# Altium integrated library Processor.IntLib: 58 symbols (part 3 of 4)
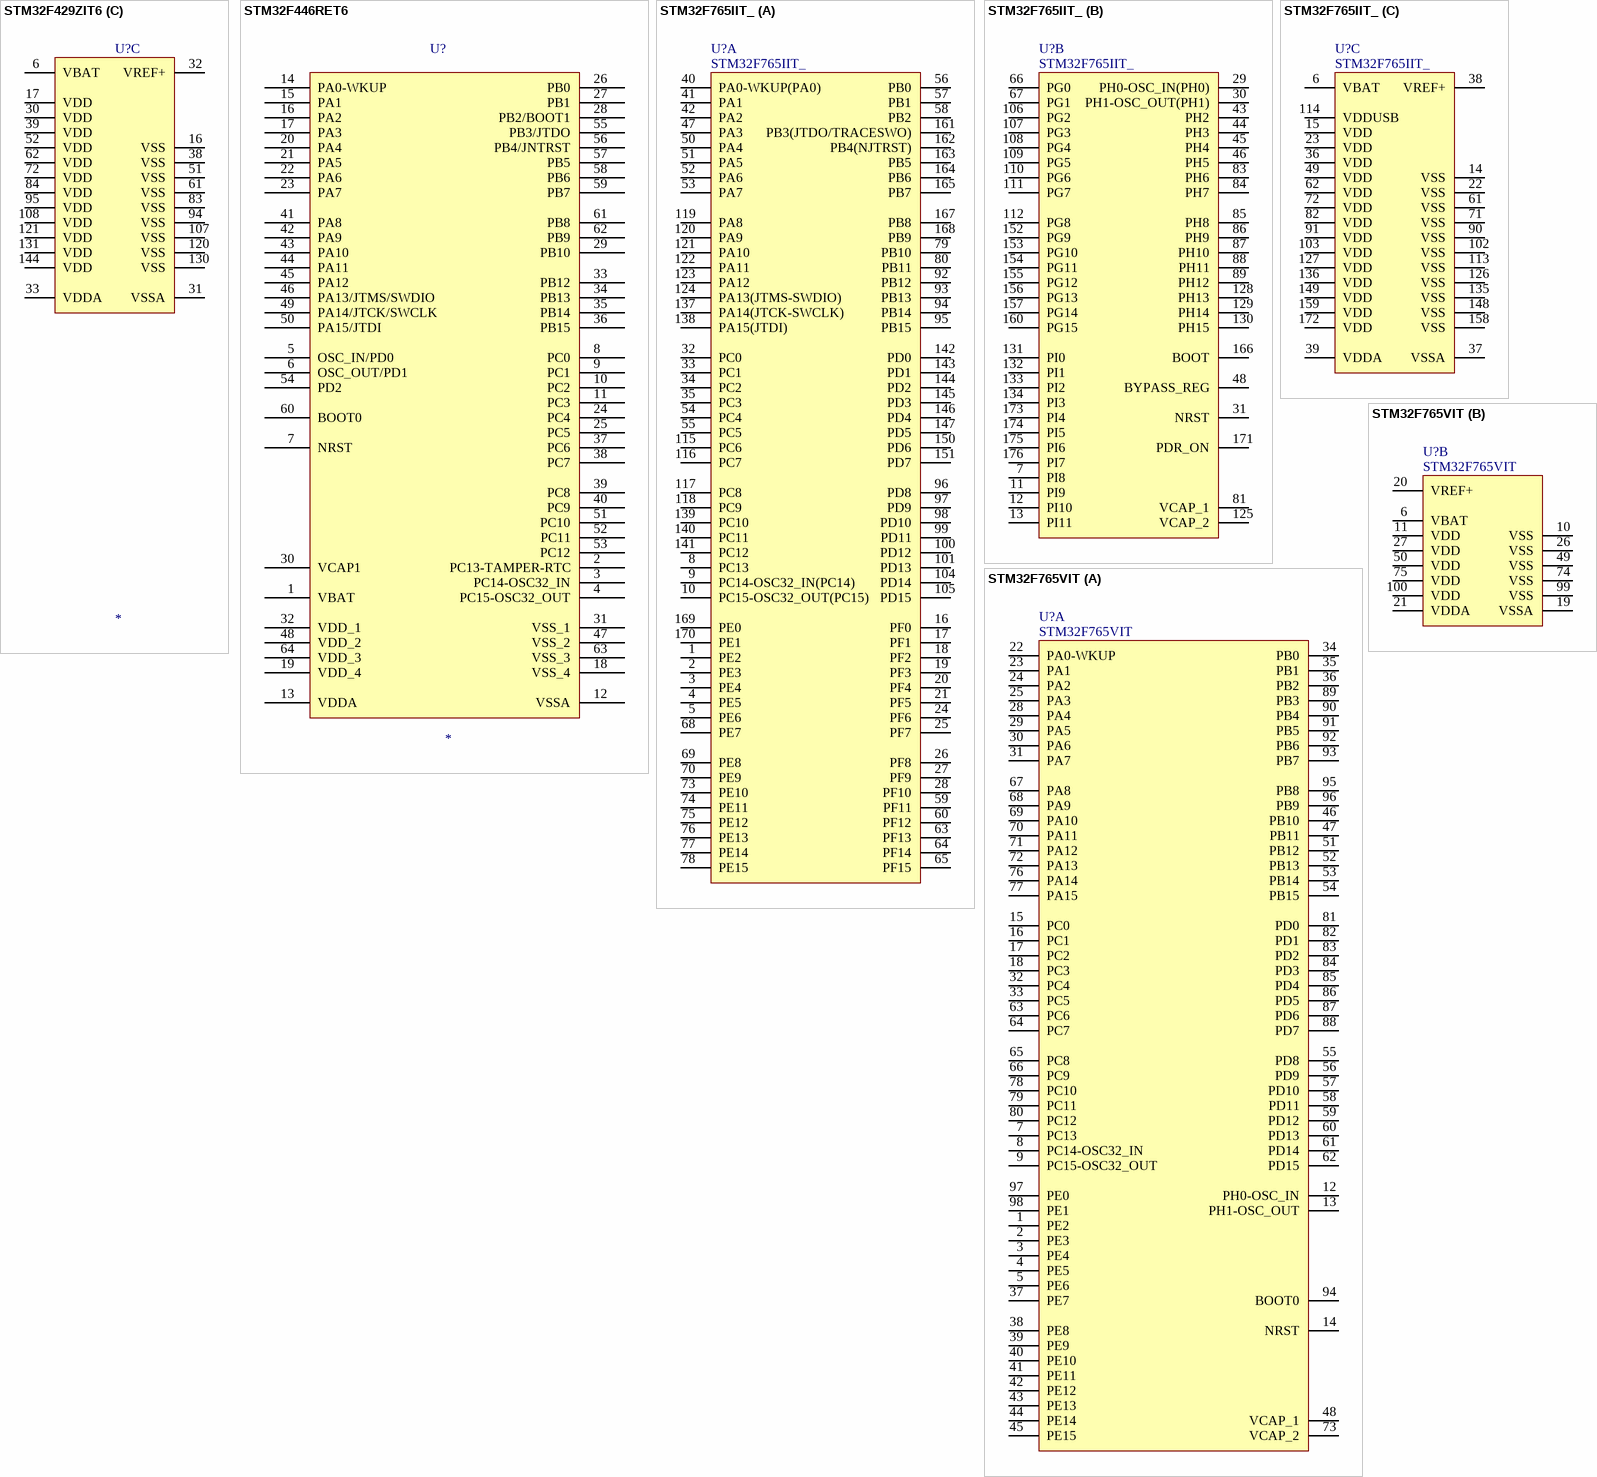
[diagram p27: symbols STM32F429ZIT6 to STM32F765VIT]

## STM32F765VIT
designator U?
Arm Cortex-M7 32b MCU+FPU; Value: STM32F765VIT
footprint LQFP100 P0.5 C14.0X14.0 H1.6 (Thin QFP, 100-Leads, Body 14x14mm, Pitch 0.5mm, IPC Medium Density)
part A pins: 1 PE2 "PE2/TRACECLK,SPI4_SCK,SAI1_MCLK_A,QUADSPI_BK1_IO2,ETH_MII_TXD3,FMC_A23,EVENTOUT", 2 PE3 "PE3/TRACED0,SAI1_SD_B,FMC_A19,EVENTOUT", 3 PE4 "PE4/TRACED1,SPI4_NSS,SAI1_FS_A,FMC_A20,DCMI_D4,LCD_B0,EVENTOUT", 4 PE5 "PE5/TRACED2,TIM9_CH1,SPI4_MISO,SAI1_SCK_A,FMC_A21,DCMI_D6,LCD_G0,EVENTOUT", 5 PE6 "PE6/TRACED3,TIM1_BKIN2,TIM9_CH2,SPI4_MOSI,SAI1_SD_A,SAI2_MCK_B,FMC_A22,DCMI_D7,LCD_G1,EVENTOUT", 7 PC13 "PC13/EVENTOUT/RTC_TAMP1/RTC_TS/RTC_OUT,WKUP4", 8 PC14-OSC32_IN "PC14-OSC32_IN(PC14)/EVENTOUT/OSC32_IN", 9 PC15-OSC32_OUT "PC15-OSC32_OUT(PC15)/EVENTOUT/OSC32_OUT", 12 PH0-OSC_IN "PH0-OSC_IN(PH0)/EVENTOUT/OSC_IN", 13 PH1-OSC_OUT "PH1-OSC_OUT(PH1)/EVENTOUT/OSC_OUT", 14 NRST, 15 PC0 "PC0/SAI2_FS_B,OTG_HS_ULPI_STP,FMC_SDNWE,LCD_R5,EVENTOUT/ADC123_IN10", 16 PC1 "PC1/TRACED0,SPI2_MOSI/I2S2_SD,SAI1_SD_A,ETH_MDC,EVENTOUT/ADC123_IN11,RTC_TAMP3,WKUP3", 17 PC2 "PC2/SPI2_MISO,OTG_HS_ULPI_DIR,ETH_MII_TXD2,FMC_SDNE0,EVENTOUT/ADC123_IN12", 18 PC3 "PC3/SPI2_MOSI/I2S2_SD,OTG_HS_ULPI_NXT,ETH_MII_TX_CLK,FMC_SDCKE0,EVENTOUT/ADC123_IN13", 22 PA0-WKUP "PA0-WKUP(PA0)/TIM2_CH1/TIM2_ETR,TIM5_CH1,TIM8_ETR,USART2_CTS,UART4_TX,SAI2_SD_B,ETH_MII_CRS,EVENTOUT/ADC123_IN0,WKUP1", 23 PA1 "PA1/TIM2_CH2,TIM5_CH2,USART2_RTS,UART4_RX,QUADSPI_BK1_IO3,SAI2_MCK_B,ETH_MII_RX_CLK/ETH_RMII_REF_CLK,LCD_R2,EVENTOUT/ADC123_IN1", 24 PA2 "PA2/TIM2_CH3,TIM5_CH3,TIM9_CH1,USART2_TX,SAI2_SCK_B,ETH_MDIO,LCD_R1,EVENTOUT/ADC123_IN2,WKUP2", 25 PA3 "PA3/TIM2_CH4,TIM5_CH4,TIM9_CH2,USART2_RX,OTG_HS_ULPI_D0,ETH_MII_COL,LCD_B5,EVENTOUT/ADC123_IN3", 28 PA4 "PA4/SPI1_NSS/I2S1_WS,SPI3_NSS/I2S3_WS,USART2_CK,OTG_HS_SOF,DCMI_HSYNC,LCD_VSYNC,EVENTOUT/ADC12_IN4,DAC_OUT1", 29 PA5 "PA5/TIM2_CH1/TIM2_ETR,TIM8_CH1N,SPI1_SCK/I2S1_CK,OTG_HS_ULPI_CK,LCD_R4,EVENTOUT/ADC12_IN5,DAC_OUT2", 30 PA6 "PA6/TIM1_BKIN,TIM3_CH1,TIM8_BKIN,SPI1_MISO,TIM13_CH1,DCMI_PIXCLK,LCD_G2,EVENTOUT/ADC12_IN6", 31 PA7 "PA7/TIM1_CH1N,TIM3_CH2,TIM8_CH1N,SPI1_MOSI/I2S1_SD,TIM14_CH1,ETH_MII_RX_DV/ETH_RMII_CRS_DV,FMC_SDNWE,EVENTOUT/ADC12_IN7", 32 PC4 "PC4/I2S1_MCK,SPDIFRX_IN2,ETH_MII_RXD0/ETH_RMII_RXD0,FMC_SDNE0,EVENTOUT/ADC12_IN14", 33 PC5 "PC5/SPDIFRX_IN3,ETH_MII_RXD1/ETH_RMII_RXD1,FMC_SDCKE0,EVENTOUT/ADC12_IN15", 34 PB0 "PB0/TIM1_CH2N,TIM3_CH3,TIM8_CH2N,UART4_CTS,LCD_R3,OTG_HS_ULPI_D1,ETH_MII_RXD2,EVENTOUT/ADC12_IN8", 35 PB1 "PB1/TIM1_CH3N,TIM3_CH4,TIM8_CH3N,LCD_R6,OTG_HS_ULPI_D2,ETH_MII_RXD3,EVENTOUT/ADC12_IN9", 36 PB2 "PB2/SAI1_SD_A,SPI3_MOSI/I2S3_SD,QUADSPI_CLK,EVENTOUT", 37 PE7 "PE7/TIM1_ETR,UART7_RX,QUADSPI_BK2_IO0,FMC_D4,EVENTOUT", 38 PE8 "PE8/TIM1_CH1N,UART7_TX,QUADSPI_BK2_IO1,FMC_D5,EVENTOUT", 39 PE9 "PE9/TIM1_CH1,UART7_RTS,QUADSPI_BK2_IO2,FMC_D6,EVENTOUT", 40 PE10 "PE10/TIM1_CH2N,UART7_CTS,QUADSPI_BK2_IO3,FMC_D7,EVENTOUT", 41 PE11 "PE11/TIM1_CH2,SPI4_NSS,SAI2_SD_B,FMC_D8,LCD_G3,EVENTOUT", 42 PE12 "PE12/TIM1_CH3N,SPI4_SCK,SAI2_SCK_B,FMC_D9,LCD_B4,EVENTOUT", 43 PE13 "PE13/TIM1_CH3,SPI4_MISO,SAI2_FS_B,FMC_D10,LCD_DE,EVENTOUT", 44 PE14 "PE14/TIM1_CH4,SPI4_MOSI,SAI2_MCK_B,FMC_D11,LCD_CLK,EVENTOUT", 45 PE15 "PE15/TIM1_BKIN,FMC_D12,LCD_R7,EVENTOUT", 46 PB10 "PB10/TIM2_CH3,I2C2_SCL,SPI2_SCK/I2S2_CK,USART3_TX,OTG_HS_ULPI_D3,ETH_MII_RX_ER,LCD_G4,EVENTOUT", 47 PB11 "PB11/TIM2_CH4,I2C2_SDA,USART3_RX,OTG_HS_ULPI_D4,ETH_MII_TX_EN/ETH_RMII_TX_EN,LCD_G5,EVENTOUT", 48 VCAP_1, 51 PB12 "PB12/TIM1_BKIN,I2C2_SMBA,SPI2_NSS/I2S2_WS,USART3_CK,CAN2_RX,OTG_HS_ULPI_D5,ETH_MII_TXD0/ETH_RMII_TXD0,OTG_HS_ID,EVENTOUT", 52 PB13 "PB13/TIM1_CH1N,SPI2_SCK/I2S2_CK,USART3_CTS,CAN2_TX,OTG_HS_ULPI_D6,ETH_MII_TXD1/ETH_RMII_TXD1,EVENTOUT/OTG_HS_VBUS", 53 PB14 "PB14/TIM1_CH2N,TIM8_CH2N,SPI2_MISO,USART3_RTS,TIM12_CH1,OTG_HS_DM,EVENTOUT", 54 PB15 "PB15/RTC_REFIN,TIM1_CH3N,TIM8_CH3N,SPI2_MOSI/I2S2_SD,TIM12_CH2,OTG_HS_DP,EVENTOUT", 55 PD8 "PD8/USART3_TX,SPDIFRX_IN11,FMC_D13,EVENTOUT", 56 PD9 "PD9/USART3_RX,FMC_D14,EVENTOUT", 57 PD10 "PD10/USART3_CK,FMC_D15,LCD_B3,EVENTOUT", 58 PD11 "PD11/I2C4_SMBA,USART3_CTS,QUADSPI_BK1_IO0,SAI2_SD_A,FMC_A16/FMC_CLE,EVENTOUT", 59 PD12 "PD12/TIM4_CH1,LPTIM1_IN1,I2C4_SCL,USART3_RTS,QUADSPI_BK1_IO1,SAI2_FS_A,FMC_A17/FMC_ALE,EVENTOUT", 60 PD13 "PD13/TIM4_CH2,LPTIM1_OUT,I2C4_SDA,QUADSPI_BK1_IO3,SAI2_SCK_A,FMC_A18,EVENTOUT", 61 PD14 "PD14/TIM4_CH3,UART8_CTS,FMC_D0,EVENTOUT", 62 PD15 "PD15/TIM4_CH4,UART8_RTS,FMC_D1,EVENTOUT", 63 PC6 "PC6/TIM3_CH1,TIM8_CH1,I2S2_MCK,USART6_TX,SDMMC1_D6,DCMI_D0,LCD_HSYNC,EVENTOUT", 64 PC7 "PC7/TIM3_CH2,TIM8_CH2,I2S3_MCK,USART6_RX,SDMMC1_D7,DCMI_D1,LCD_G6,EVENTOUT", 65 PC8 "PC8/TRACED1,TIM3_CH3,TIM8_CH3,UART5_RTS,USART6_CK,SDMMC1_D0,DCMI_D2,EVENTOUT", 66 PC9 "PC9/MCO2,TIM3_CH4,TIM8_CH4,I2C3_SDA,I2S_CKIN,UART5_CTS,QUADSPI_BK1_IO0,SDMMC1_D1,DCMI_D3,EVENTOUT", 67 PA8 "PA8/MCO1,TIM1_CH1,TIM8_BKIN2,I2C3_SCL,USART1_CK,OTG_FS_SOF,LCD_R6,EVENTOUT", 68 PA9 "PA9/TIM1_CH2,I2C3_SMBA,SPI2_SCK/I2S2_CK,USART1_TX,DCMI_D0,EVENTOUT/OTG_FS_VBUS", 69 PA10 "PA10/TIM1_CH3,USART1_RX,OTG_FS_ID,DCMI_D1,EVENTOUT", 70 PA11 "PA11/TIM1_CH4,USART1_CTS,CAN1_RX,OTG_FS_DM,LCD_R4,EVENTOUT", 71 PA12 "PA12/TIM1_ETR,USART1_RTS,SAI2_FS_B,CAN1_TX,OTG_FS_DP,LCD_R5,EVENTOUT", 72 PA13 "PA13(JTMS-SWDIO)/JTMS-SWDIO,EVENTOUT", 73 VCAP_2, 76 PA14 "PA14(JTCK-SWCLK)/JTCK-SWCLK,EVENTOUT", 77 PA15 "PA15(JTDI)/JTDI/TIM2_CH1/TIM2_ETR,HDMI-CEC,SPI1_NSS/I2S1_WS,SPI3_NSS/I2S3_WS,UART4_RTS,EVENTOUT", 78 PC10 "PC10/SPI3_SCK/I2S3_CK,USART3_TX,UART4_TX,QUADSPI_BK1_IO1,SDMMC1_D2,DCMI_D8,LCD_R2,EVENTOUT", 79 PC11 "PC11/SPI3_MISO,USART3_RX,UART4_RX,QUADSPI_BK2_NCS,SDMMC1_D3,DCMI_D4,EVENTOUT", 80 PC12 "PC12/TRACED3,SPI3_MOSI/I2S3_SD,USART3_CK,UART5_TX,SDMMC1_CK,DCMI_D9,EVENTOUT", 81 PD0 "PD0/CAN1_RX,FMC_D2,EVENTOUT", 82 PD1 "PD1/CAN1_TX,FMC_D3,EVENTOUT", 83 PD2 "PD2/TRACED2,TIM3_ETR,UART5_RX,SDMMC1_CMD,DCMI_D11,EVENTOUT", 84 PD3 "PD3/SPI2_SCK/I2S2_CK,USART2_CTS,FMC_CLK,DCMI_D5,LCD_G7,EVENTOUT", 85 PD4 "PD4/USART2_RTS,FMC_NOE,EVENTOUT", 86 PD5 "PD5/USART2_TX,FMC_NWE,EVENTOUT", 87 PD6 "PD6/SPI3_MOSI/I2S3_SD,SAI1_SD_A,USART2_RX,FMC_NWAIT,DCMI_D10,LCD_B2,EVENTOUT", 88 PD7 "PD7/USART2_CK,SPDIFRX_IN0,FMC_NE1,EVENTOUT", 89 PB3 "PB3(JTDO/TRACESWO)/JTDO/TRACESWO,TIM2_CH2,SPI1_SCK/I2S1_CK,SPI3_SCK/I2S3_CK,EVENTOUT", 90 PB4 "PB4(NJTRST)/NJTRST,TIM3_CH1,SPI1_MISO,SPI3_MISO,SPI2_NSS/I2S2_WS,EVENTOUT", 91 PB5 "PB5/TIM3_CH2,I2C1_SMBA,SPI1_MOSI/I2S1_SD,SPI3_MOSI/I2S3_SD,CAN2_RX,OTG_HS_ULPI_D7,ETH_PPS_OUT,FMC_SDCKE1,DCMI_D10,EVENTOUT", 92 PB6 "PB6/TIM4_CH1,HDMI-CEC,I2C1_SCL,USART1_TX,CAN2_TX,QUADSPI_BK1_NCS,FMC_SDNE1,DCMI_D5,EVENTOUT", 93 PB7 "PB7/TIM4_CH2,I2C1_SDA,USART1_RX,FMC_NL,DCMI_VSYNC,EVENTOUT", 94 BOOT0 "BOOT/VPP", 95 PB8 "PB8/TIM4_CH3,TIM10_CH1,I2C1_SCL,CAN1_RX,ETH_MII_TXD3,SDMMC1_D4,DCMI_D6,LCD_B6,EVENTOUT", 96 PB9 "PB9/TIM4_CH4,TIM11_CH1,I2C1_SDA,SPI2_NSS/I2S2_WS,CAN1_TX,SDMMC1_D5,DCMI_D7,LCD_B7,EVENTOUT", 97 PE0 "PE0/TIM4_ETR,LPTIM1_ETR,UART8_RX,SAI2_MCK_A,FMC_NBL0,DCMI_D2,EVENTOUT", 98 PE1 "PE1/LPTIM1_IN2,UART8_TX,FMC_NBL1,DCMI_D3,EVENTOUT"
part B pins: 6 VBAT, 10 VSS, 11 VDD, 19 VSSA, 20 VREF+, 21 VDDA, 26 VSS, 27 VDD, 49 VSS, 50 VDD, 74 VSS, 75 VDD, 99 VSS, 100 VDD

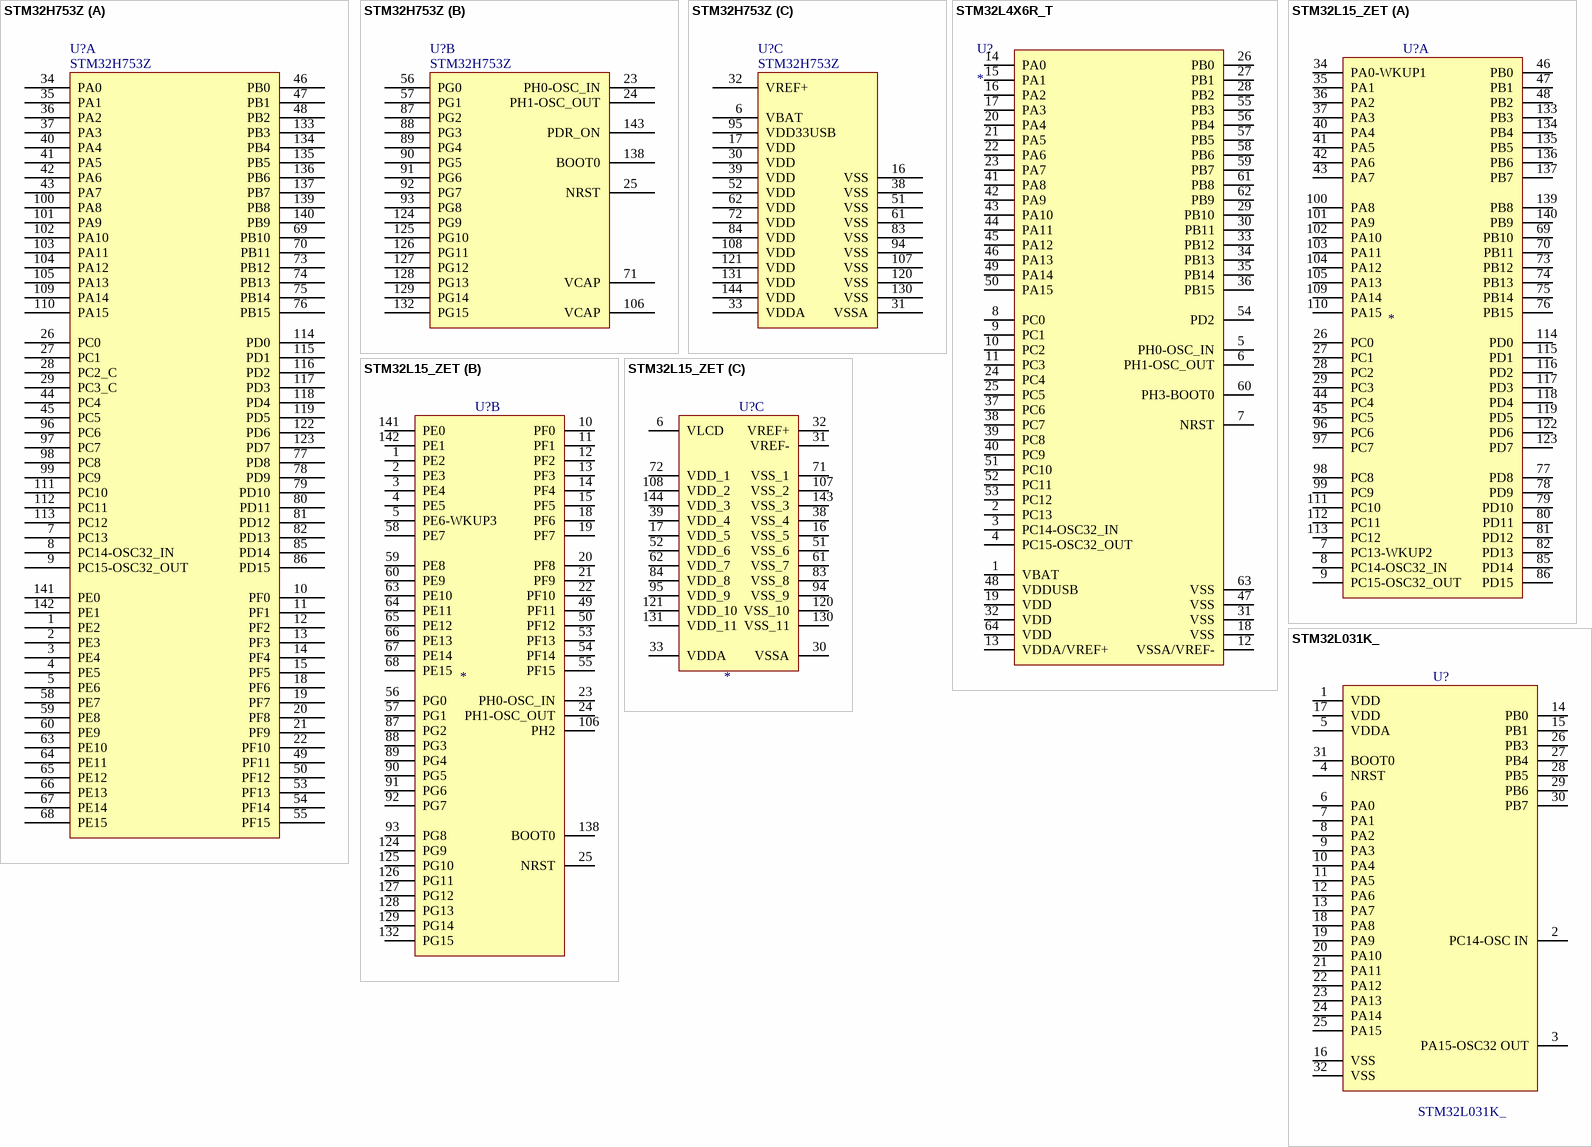
[diagram p16: symbols STM32H753Z to STM32L031K_]

## STM32H753Z
designator U?
32-bit Arm® Cortex®-M7 480MHz MCUs; Value: STM32H753Z
footprint LQFP144 P0.5 C20.0x20.0 H1.6 (Thin QFP, 144-Leads, Body 20x20mm, Pitch 0.5mm, IPC Medium Density)
part A pins: 1 PE2 "PE2/TRACECLK,SPI4_SCK,SAI1_MCLK_A,QUADSPI_BK1_IO2,ETH_MII_TXD3,FMC_A23,EVENTOUT", 2 PE3 "PE3/TRACED0,SAI1_SD_B,FMC_A19,EVENTOUT", 3 PE4 "PE4/TRACED1,SPI4_NSS,SAI1_FS_A,FMC_A20,DCMI_D4,LCD_B0,EVENTOUT", 4 PE5 "PE5/TRACED2,TIM9_CH1,SPI4_MISO,SAI1_SCK_A,FMC_A21,DCMI_D6,LCD_G0,EVENTOUT", 5 PE6 "PE6/TRACED3,TIM1_BKIN2,TIM9_CH2,SPI4_MOSI,SAI1_SD_A,SAI2_MCK_B,FMC_A22,DCMI_D7,LCD_G1,EVENTOUT", 7 PC13 "PC13/EVENTOUT/RTC_TAMP1/RTC_TS/RTC_OUT,WKUP4", 8 PC14-OSC32_IN "PC14/EVENTOUT/OSC32_IN", 9 PC15-OSC32_OUT "PC15/EVENTOUT/OSC32_OUT", 10 PF0 "PF0/I2C2_SDA,FMC_A0,EVENTOUT", 11 PF1 "PF1/I2C2_SCL,FMC_A1,EVENTOUT", 12 PF2 "PF2/I2C2_SMBA,FMC_A2,EVENTOUT", 13 PF3 "PF3/FMC_A3,EVENTOUT/ADC3_IN9", 14 PF4 "PF4/FMC_A4,EVENTOUT/ADC3_IN14", 15 PF5 "PF5/FMC_A5,EVENTOUT/ADC3_IN15", 18 PF6 "PF6/TIM10_CH1,SPI5_NSS,SAI1_SD_B,UART7_RX,QUADSPI_BK1_IO3,EVENTOUT/ADC3_IN4", 19 PF7 "PF7/TIM11_CH1,SPI5_SCK,SAI1_MCLK_B,UART7_TX,QUADSPI_BK1_IO2,EVENTOUT/ADC3_IN5", 20 PF8 "PF8/SPI5_MISO,SAI1_SCK_B,UART7_RTS,TIM13_CH1,QUADSPI_BK1_IO0,EVENTOUT/ADC3_IN6", 21 PF9 "PF9/SPI5_MOSI,SAI1_FS_B,UART7_CTS,TIM14_CH1,QUADSPI_BK1_IO1,EVENTOUT/ADC3_IN7", 22 PF10 "PF10/DCMI_D11,LCD_DE,EVENTOUT/ADC3_IN8", 26 PC0 "PC0/SAI2_FS_B,OTG_HS_ULPI_STP,FMC_SDNWE,LCD_R5,EVENTOUT/ADC123_IN10", 27 PC1 "PC1/TRACED0,SPI2_MOSI/I2S2_SD,SAI1_SD_A,ETH_MDC,EVENTOUT/ADC123_IN11,RTC_TAMP3,WKUP3", 28 PC2_C "PC2/SPI2_MISO,OTG_HS_ULPI_DIR,ETH_MII_TXD2,FMC_SDNE0,EVENTOUT/ADC123_IN12", 29 PC3_C "PC3/SPI2_MOSI/I2S2_SD,OTG_HS_ULPI_NXT,ETH_MII_TX_CLK,FMC_SDCKE0,EVENTOUT/ADC123_IN13", 34 PA0 "PA0-WKUP(PA0)/TIM2_CH1/TIM2_ETR,TIM5_CH1,TIM8_ETR,USART2_CTS,UART4_TX,SAI2_SD_B,ETH_MII_CRS,EVENTOUT/ADC123_IN0,WKUP1", 35 PA1 "PA1/TIM2_CH2,TIM5_CH2,USART2_RTS,UART4_RX,QUADSPI_BK1_IO3,SAI2_MCK_B,ETH_MII_RX_CLK/ETH_RMII_REF_CLK,LCD_R2,EVENTOUT/ADC123_IN1", 36 PA2 "PA2/TIM2_CH3,TIM5_CH3,TIM9_CH1,USART2_TX,SAI2_SCK_B,ETH_MDIO,LCD_R1,EVENTOUT/ADC123_IN2,WKUP2", 37 PA3 "PA3/TIM2_CH4,TIM5_CH4,TIM9_CH2,USART2_RX,OTG_HS_ULPI_D0,ETH_MII_COL,LCD_B5,EVENTOUT/ADC123_IN3", 40 PA4 "PA4/SPI1_NSS/I2S1_WS,SPI3_NSS/I2S3_WS,USART2_CK,OTG_HS_SOF,DCMI_HSYNC,LCD_VSYNC,EVENTOUT/ADC12_IN4,DAC_OUT1", 41 PA5 "PA5/TIM2_CH1/TIM2_ETR,TIM8_CH1N,SPI1_SCK/I2S1_CK,OTG_HS_ULPI_CK,LCD_R4,EVENTOUT/ADC12_IN5,DAC_OUT2", 42 PA6 "PA6/TIM1_BKIN,TIM3_CH1,TIM8_BKIN,SPI1_MISO,TIM13_CH1,DCMI_PIXCLK,LCD_G2,EVENTOUT/ADC12_IN6", 43 PA7 "PA7/TIM1_CH1N,TIM3_CH2,TIM8_CH1N,SPI1_MOSI/I2S1_SD,TIM14_CH1,ETH_MII_RX_DV/ETH_RMII_CRS_DV,FMC_SDNWE,EVENTOUT/ADC12_IN7", 44 PC4 "PC4/I2S1_MCK,SPDIFRX_IN2,ETH_MII_RXD0/ETH_RMII_RXD0,FMC_SDNE0,EVENTOUT/ADC12_IN14", 45 PC5 "PC5/SPDIFRX_IN3,ETH_MII_RXD1/ETH_RMII_RXD1,FMC_SDCKE0,EVENTOUT/ADC12_IN15", 46 PB0 "PB0/TIM1_CH2N,TIM3_CH3,TIM8_CH2N,UART4_CTS,LCD_R3,OTG_HS_ULPI_D1,ETH_MII_RXD2,EVENTOUT/ADC12_IN8", 47 PB1 "PB1/TIM1_CH3N,TIM3_CH4,TIM8_CH3N,LCD_R6,OTG_HS_ULPI_D2,ETH_MII_RXD3,EVENTOUT/ADC12_IN9", 48 PB2 "PB2/SAI1_SD_A,SPI3_MOSI/I2S3_SD,QUADSPI_CLK,EVENTOUT", 49 PF11 "PF11/SPI5_MOSI,SAI2_SD_B,FMC_SDNRAS,DCMI_D12,EVENTOUT", 50 PF12 "PF12/FMC_A6,EVENTOUT", 53 PF13 "PF13/I2C4_SMBA,FMC_A7,EVENTOUT", 54 PF14 "PF14/I2C4_SCL,FMC_A8,EVENTOUT", 55 PF15 "PF15/I2C4_SDA,FMC_A9,EVENTOUT", 58 PE7 "PE7/TIM1_ETR,UART7_RX,QUADSPI_BK2_IO0,FMC_D4,EVENTOUT", 59 PE8 "PE8/TIM1_CH1N,UART7_TX,QUADSPI_BK2_IO1,FMC_D5,EVENTOUT", 60 PE9 "PE9/TIM1_CH1,UART7_RTS,QUADSPI_BK2_IO2,FMC_D6,EVENTOUT", 63 PE10 "PE10/TIM1_CH2N,UART7_CTS,QUADSPI_BK2_IO3,FMC_D7,EVENTOUT", 64 PE11 "PE11/TIM1_CH2,SPI4_NSS,SAI2_SD_B,FMC_D8,LCD_G3,EVENTOUT", 65 PE12 "PE12/TIM1_CH3N,SPI4_SCK,SAI2_SCK_B,FMC_D9,LCD_B4,EVENTOUT", 66 PE13 "PE13/TIM1_CH3,SPI4_MISO,SAI2_FS_B,FMC_D10,LCD_DE,EVENTOUT", 67 PE14 "PE14/TIM1_CH4,SPI4_MOSI,SAI2_MCK_B,FMC_D11,LCD_CLK,EVENTOUT", 68 PE15 "PE15/TIM1_BKIN,FMC_D12,LCD_R7,EVENTOUT", 69 PB10 "PB10/TIM2_CH3,I2C2_SCL,SPI2_SCK/I2S2_CK,USART3_TX,OTG_HS_ULPI_D3,ETH_MII_RX_ER,LCD_G4,EVENTOUT", 70 PB11 "PB11/TIM2_CH4,I2C2_SDA,USART3_RX,OTG_HS_ULPI_D4,ETH_MII_TX_EN/ETH_RMII_TX_EN,LCD_G5,EVENTOUT", 73 PB12 "PB12/TIM1_BKIN,I2C2_SMBA,SPI2_NSS/I2S2_WS,USART3_CK,CAN2_RX,OTG_HS_ULPI_D5,ETH_MII_TXD0/ETH_RMII_TXD0,OTG_HS_ID,EVENTOUT", 74 PB13 "PB13/TIM1_CH1N,SPI2_SCK/I2S2_CK,USART3_CTS,CAN2_TX,OTG_HS_ULPI_D6,ETH_MII_TXD1/ETH_RMII_TXD1,EVENTOUT/OTG_HS_VBUS", 75 PB14 "PB14/TIM1_CH2N,TIM8_CH2N,SPI2_MISO,USART3_RTS,TIM12_CH1,OTG_HS_DM,EVENTOUT", 76 PB15 "PB15/RTC_REFIN,TIM1_CH3N,TIM8_CH3N,SPI2_MOSI/I2S2_SD,TIM12_CH2,OTG_HS_DP,EVENTOUT", 77 PD8 "PD8/USART3_TX,SPDIFRX_IN11,FMC_D13,EVENTOUT", 78 PD9 "PD9/USART3_RX,FMC_D14,EVENTOUT", 79 PD10 "PD10/USART3_CK,FMC_D15,LCD_B3,EVENTOUT", 80 PD11 "PD11/I2C4_SMBA,USART3_CTS,QUADSPI_BK1_IO0,SAI2_SD_A,FMC_A16/FMC_CLE,EVENTOUT", 81 PD12 "PD12/TIM4_CH1,LPTIM1_IN1,I2C4_SCL,USART3_RTS,QUADSPI_BK1_IO1,SAI2_FS_A,FMC_A17/FMC_ALE,EVENTOUT", 82 PD13 "PD13/TIM4_CH2,LPTIM1_OUT,I2C4_SDA,QUADSPI_BK1_IO3,SAI2_SCK_A,FMC_A18,EVENTOUT", 85 PD14 "PD14/TIM4_CH3,UART8_CTS,FMC_D0,EVENTOUT", 86 PD15 "PD15/TIM4_CH4,UART8_RTS,FMC_D1,EVENTOUT", 96 PC6 "PC6/TIM3_CH1,TIM8_CH1,I2S2_MCK,USART6_TX,SDMMC1_D6,DCMI_D0,LCD_HSYNC,EVENTOUT", 97 PC7 "PC7/TIM3_CH2,TIM8_CH2,I2S3_MCK,USART6_RX,SDMMC1_D7,DCMI_D1,LCD_G6,EVENTOUT", 98 PC8 "PC8/TRACED1,TIM3_CH3,TIM8_CH3,UART5_RTS,USART6_CK,SDMMC1_D0,DCMI_D2,EVENTOUT", 99 PC9 "PC9/MCO2,TIM3_CH4,TIM8_CH4,I2C3_SDA,I2S_CKIN,UART5_CTS,QUADSPI_BK1_IO0,SDMMC1_D1,DCMI_D3,EVENTOUT", 100 PA8 "PA8/MCO1,TIM1_CH1,TIM8_BKIN2,I2C3_SCL,USART1_CK,OTG_FS_SOF,LCD_R6,EVENTOUT", 101 PA9 "PA9/TIM1_CH2,I2C3_SMBA,SPI2_SCK/I2S2_CK,USART1_TX,DCMI_D0,EVENTOUT/OTG_FS_VBUS", 102 PA10 "PA10/TIM1_CH3,USART1_RX,OTG_FS_ID,DCMI_D1,EVENTOUT", 103 PA11 "PA11/TIM1_CH4,USART1_CTS,CAN1_RX,OTG_FS_DM,LCD_R4,EVENTOUT", 104 PA12 "PA12/TIM1_ETR,USART1_RTS,SAI2_FS_B,CAN1_TX,OTG_FS_DP,LCD_R5,EVENTOUT", 105 PA13 "PA13/JTMS-SWDIO,EVENTOUT", 109 PA14 "PA14/JTCK-SWCLK,EVENTOUT", 110 PA15 "PA15/JTDI,TIM2_CH1/TIM2_ETR,HDMI-CEC,SPI1_NSS/I2S1_WS,SPI3_NSS/I2S3_WS,UART4_RTS,EVENTOUT", 111 PC10 "PC10/SPI3_SCK/I2S3_CK,USART3_TX,UART4_TX,QUADSPI_BK1_IO1,SDMMC1_D2,DCMI_D8,LCD_R2,EVENTOUT", 112 PC11 "PC11/SPI3_MISO,USART3_RX,UART4_RX,QUADSPI_BK2_NCS,SDMMC1_D3,DCMI_D4,EVENTOUT", 113 PC12 "PC12/TRACED3,SPI3_MOSI/I2S3_SD,USART3_CK,UART5_TX,SDMMC1_CK,DCMI_D9,EVENTOUT", 114 PD0 "PD0/CAN1_RX,FMC_D2,EVENTOUT", 115 PD1 "PD1/CAN1_TX,FMC_D3,EVENTOUT", 116 PD2 "PD2/TRACED2,TIM3_ETR,UART5_RX,SDMMC1_CMD,DCMI_D11,EVENTOUT", 117 PD3 "PD3/SPI2_SCK/I2S2_CK,USART2_CTS,FMC_CLK,DCMI_D5,LCD_G7,EVENTOUT", 118 PD4 "PD4/USART2_RTS,FMC_NOE,EVENTOUT", 119 PD5 "PD5/USART2_TX,FMC_NWE,EVENTOUT", 122 PD6 "PD6/SPI3_MOSI/I2S3_SD,SAI1_SD_A,USART2_RX,FMC_NWAIT,DCMI_D10,LCD_B2,EVENTOUT", 123 PD7 "PD7/USART2_CK,SPDIFRX_IN0,FMC_NE1,EVENTOUT", 133 PB3 "PB3/JTDO/TRACESWO,TIM2_CH2,SPI1_SCK/I2S1_CK,SPI3_SCK/I2S3_CK,EVENTOUT", 134 PB4 "PB4/NJTRST,TIM3_CH1,SPI1_MISO,SPI3_MISO,SPI2_NSS/I2S2_WS,EVENTOUT", 135 PB5 "PB5/TIM3_CH2,I2C1_SMBA,SPI1_MOSI/I2S1_SD,SPI3_MOSI/I2S3_SD,CAN2_RX,OTG_HS_ULPI_D7,ETH_PPS_OUT,FMC_SDCKE1,DCMI_D10,EVENTOUT", 136 PB6 "PB6/TIM4_CH1,HDMI-CEC,I2C1_SCL,USART1_TX,CAN2_TX,QUADSPI_BK1_NCS,FMC_SDNE1,DCMI_D5,EVENTOUT", 137 PB7 "PB7/TIM4_CH2,I2C1_SDA,USART1_RX,FMC_NL,DCMI_VSYNC,EVENTOUT", 139 PB8 "PB8/TIM4_CH3,TIM10_CH1,I2C1_SCL,CAN1_RX,ETH_MII_TXD3,SDMMC1_D4,DCMI_D6,LCD_B6,EVENTOUT", 140 PB9 "PB9/TIM4_CH4,TIM11_CH1,I2C1_SDA,SPI2_NSS/I2S2_WS,CAN1_TX,SDMMC1_D5,DCMI_D7,LCD_B7,EVENTOUT", 141 PE0 "PE0/TIM4_ETR,LPTIM1_ETR,UART8_RX,SAI2_MCK_A,FMC_NBL0,DCMI_D2,EVENTOUT", 142 PE1 "PE1/LPTIM1_IN2,UART8_TX,FMC_NBL1,DCMI_D3,EVENTOUT"
part B pins: 23 PH0-OSC_IN "PH0/EVENTOUT/OSC_IN", 24 PH1-OSC_OUT "PH1/EVENTOUT/OSC_OUT", 25 NRST, 56 PG0 "PG0/FMC_A10,EVENTOUT", 57 PG1 "PG1/FMC_A11,EVENTOUT", 71 VCAP "VCAP_1", 87 PG2 "PG2/FMC_A12,EVENTOUT", 88 PG3 "PG3/FMC_A13,EVENTOUT", 89 PG4 "PG4/FMC_A14/FMC_BA0,EVENTOUT", 90 PG5 "PG5/FMC_A15/FMC_BA1,EVENTOUT", 91 PG6 "PG6/DCMI_D12,LCD_R7,EVENTOUT", 92 PG7 "PG7/USART6_CK,FMC_INT,DCMI_D13,LCD_CLK,EVENTOUT", 93 PG8 "PG8/SPI6_NSS,SPDIFRX_IN2,USART6_RTS,ETH_PPS_OUT,FMC_SDCLK,EVENTOUT", 106 VCAP "VCAP_2", 124 PG9 "PG9/SPDIFRX_IN3,USART6_RX,QUADSPI_BK2_IO2,SAI2_FS_B,FMC_NE2/FMC_NCE,DCMI_VSYNC,EVENTOUT", 125 PG10 "PG10/LCD_G3,SAI2_SD_B,FMC_NE3,DCMI_D2,LCD_B2,EVENTOUT", 126 PG11 "PG11/SPDIFRX_IN0,ETH_MII_TX_EN/ETH_RMII_TX_EN,DCMI_D3,LCD_B3,EVENTOUT", 127 PG12 "PG12/LPTIM1_IN1,SPI6_MISO,SPDIFRX_IN1,USART6_RTS,LCD_B4,FMC_NE4,LCD_B1,EVENTOUT", 128 PG13 "PG13/TRACED0,LPTIM1_OUT,SPI6_SCK,USART6_CTS,ETH_MII_TXD0/ETH_RMII_TXD0,FMC_A24,LCD_R0,EVENTOUT", 129 PG14 "PG14/TRACED1,LPTIM1_ETR,SPI6_MOSI,USART6_TX,QUADSPI_BK2_IO3,ETH_MII_TXD1/ETH_RMII_TXD1,FMC_A25,LCD_B0,EVENTOUT", 132 PG15 "PG15/USART6_CTS,FMC_SDNCAS,DCMI_D13,EVENTOUT", 138 BOOT0 "BOOT/VPP", 143 PDR_ON
part C pins: 6 VBAT, 16 VSS, 17 VDD, 30 VDD, 31 VSSA, 32 VREF+, 33 VDDA, 38 VSS, 39 VDD, 51 VSS, 52 VDD, 61 VSS, 62 VDD, 72 VDD, 83 VSS, 84 VDD, 94 VSS, 95 VDD33USB "VDDUSB", 107 VSS, 108 VDD, 120 VSS, 121 VDD, 130 VSS, 131 VDD, 144 VDD

## STM32L4X6R_T
designator U?
Ultra-low-power Arm® Cortex®-M4 32-bit MCU+FPU, 100DMIPS, / up to 1MB Flash, 320KB SRAM, USB OTG FS, audio, ext. SMPS; Value: *
footprint LQFP64 P0.5 C10.0x10.0 H1.6 (Thin QFP, 64-Leads, Body 10x10mm, Pitch 0.5mm, IPC Medium Density)
pins: 1 VBAT, 2 PC13, 3 PC14-OSC32_IN, 4 PC15-OSC32_OUT, 5 PH0-OSC_IN, 6 PH1-OSC_OUT, 7 NRST, 8 PC0, 9 PC1, 10 PC2, 11 PC3, 12 VSSA/VREF-, 13 VDDA/VREF+, 14 PA0, 15 PA1, 16 PA2, 17 PA3, 18 VSS, 19 VDD, 20 PA4, 21 PA5, 22 PA6, 23 PA7, 24 PC4, 25 PC5, 26 PB0, 27 PB1, 28 PB2, 29 PB10, 30 PB11, 31 VSS, 32 VDD, 33 PB12, 34 PB13, 35 PB14, 36 PB15, 37 PC6, 38 PC7, 39 PC8, 40 PC9, 41 PA8, 42 PA9, 43 PA10, 44 PA11, 45 PA12, 46 PA13, 47 VSS, 48 VDDUSB, 49 PA14, 50 PA15, 51 PC10, 52 PC11, 53 PC12, 54 PD2, 55 PB3, 56 PB4, 57 PB5, 58 PB6, 59 PB7, 60 PH3-BOOT0, 61 PB8, 62 PB9, 63 VSS, 64 VDD

## STM32L15_ZET
designator U?
Ultra-low-power 32-bit MCU ARM®-based Cortex®-M3 with 512KB  Flash, 80KB SRAM, 16KB EEPROM, LCD, USB, ADC, DAC; Value: *
footprint LQFP144 P0.5 C20.0x20.0 H1.6 (Thin QFP, 144-Leads, Body 20x20mm, Pitch 0.5mm, IPC Medium Density)
part A pins: 7 PC13-WKUP2 "PC13-WKUP2/PC13/WKUP2/RTC_TAMP1/RTC_TS/RTC_OUT", 8 PC14-OSC32_IN "PC14-OSC32_IN/PC14/OSC32_IN", 9 PC15-OSC32_OUT "PC15-OSC32_OUT/PC15/OSC32_OUT", 26 PC0 "PC0/LCD_SEG18/ADC_IN10/COMP1_INP", 27 PC1 "PC1/LCD_SEG19/ADC_IN11/COMP1_INP", 28 PC2 "PC2/LCD_SEG20/ADC_IN12/COMP1_INP", 29 PC3 "PC3/LCD_SEG21/ADC_IN13/COMP1_INP", 34 PA0-WKUP1 "PA0-WKUP1/PA0/WKUP1/RTC_TAMP2/TIM2_CH1_ETR/TIM5_CH1/USART2_CTS/ADC_IN0/COMP1_INP", 35 PA1 "PA1/TIM2_CH2/TIM5_CH2/USART2_RTS/LCD_SEG0/ADC_IN1/COMP1_INP/OPAMP1_VINP", 36 PA2 "PA2/TIM2_CH3/TIM5_CH3/TIM9_CH1/USART2_TX/LCD_SEG1/ADC_IN2/COMP1_INP/OPAMP1_VINM", 37 PA3 "PA3/TIM2_CH4/TIM5_CH4/TIM9_CH2/USART2_RX/LCD_SEG2/ADC_IN3/COMP1_INP/OPAMP1_VOUT", 40 PA4 "PA4/SPI1_NSS/SPI3_NSS/I2S3_WS/USART2_CK/ADC_IN4/DAC_OUT1/COMP1_INP", 41 PA5 "PA5/TIM2_CH1_ETR/SPI1_SCK/ADC_IN5/DAC_OUT2/COMP1_INP", 42 PA6 "PA6/TIM3_CH1/TIM10_CH1/SPI1_MISO/LCD_SEG3/ADC_IN6/COMP1_INP/OPAMP2_VINP", 43 PA7 "PA7/TIM3_CH2/TIM11_CH1/SPI1_MOSI/LCD_SEG4/ADC_IN7/COMP1_INP/OPAMP2_VINM", 44 PC4 "PC4/LCD_SEG22/ADC_IN14/COMP1_INP", 45 PC5 "PC5/LCD_SEG23/ADC_IN15/COMP1_INP", 46 PB0 "PB0/TIM3_CH3/LCD_SEG5/ADC_IN8/COMP1_INP/VREF_OUT/OPAMP2_VOUT", 47 PB1 "PB1/TIM3_CH4/LCD_SEG6/ADC_IN9/COMP1_INP/VREF_OUT", 48 PB2 "PB2/BOOT1/ADC_IN0B/COMP1_INP", 69 PB10 "PB10/TIM2_CH3/I2C2_SCL/USART3_TX/LCD_SEG10", 70 PB11 "PB11/TIM2_CH4/I2C2_SDA/USART3_RX/LCD_SEG11", 73 PB12 "PB12/TIM10_CH1/I2C2_SMBA/SPI2_NSS/I2S2_WS/USART3_CK/LCD_SEG12/ADC_IN18/COMP1_INP", 74 PB13 "PB13/TIM9_CH1/SPI2_SCK/I2S2_CK/USART3_CTS/LCD_SEG13/ADC_IN19/COMP1_INP", 75 PB14 "PB14/TIM9_CH2/SPI2_MISO/USART3_RTS/LCD_SEG14/ADC_IN20/COMP1_INP", 76 PB15 "PB15/TIM11_CH1/SPI2_MOSI/I2S2_SD/LCD_SEG15/ADC_IN21/COMP1_INP/RTC_REFIN", 77 PD8 "PD8/USART3_TX/LCD_SEG28", 78 PD9 "PD9/USART3_RX/LCD_SEG29", 79 PD10 "PD10/USART3_CK/LCD_SEG30", 80 PD11 "PD11/USART3_CTS/LCD_SEG31", 81 PD12 "PD12/TIM4_CH1/USART3_RTS/LCD_SEG32", 82 PD13 "PD13/TIM4_CH2/LCD_SEG33", 85 PD14 "PD14/TIM4_CH3/LCD_SEG34", 86 PD15 "PD15/TIM4_CH4/LCD_SEG35", 96 PC6 "PC6/TIM3_CH1/I2S2_MCK/LCD_SEG24", 97 PC7 "PC7/TIM3_CH2/I2S3_MCK/LCD_SEG25", 98 PC8 "PC8/TIM3_CH3/LCD_SEG26", 99 PC9 "PC9/TIM3_CH4/LCD_SEG27", 100 PA8 "PA8/USART1_CK/MCO/LCD_COM0", 101 PA9 "PA9/USART1_TX/LCD_COM1", 102 PA10 "PA10/USART1_RX/LCD_COM2", 103 PA11 "PA11/USART1_CTS/USB_DM/SPI1_MISO", 104 PA12 "PA12/USART1_RTS/USB_DP/SPI1_MOSI", 105 PA13 "PA13/JTMS-SWDAT", 109 PA14 "PA14/JTCK-SWCLK", 110 PA15 "PA15/JTDI/TIM2_CH1_ETR/SPI1_NSS/SPI3_NSS/I2S3_WS/LCD_SEG17", 111 PC10 "PC10/SPI3_SCK/I2S3_CK/USART3_TX/LCD_SEG28/LCD_SEG40/LCD_COM4", 112 PC11 "PC11/SPI3_MISO/USART3_RX/LCD_SEG29/LCD_SEG41/LCD_COM5", 113 PC12 "PC12/SPI3_MOSI/I2S3_SD/USART3_CK/LCD_SEG30/LCD_SEG42/LCD_COM6", 114 PD0 "PD0/TIM9_CH1/SPI2_NSS/I2S2_WS", 115 PD1 "PD1/SPI2_SCK/I2S2_CK", 116 PD2 "PD2/TIM3_ETR/LCD_SEG31/LCD_SEG43/LCD_COM7", 117 PD3 "PD3/SPI2_MISO/USART2_CTS", 118 PD4 "PD4/SPI2_MOSI/I2S2_SD/USART2_RTS", 119 PD5 "PD5/USART2_TX", 122 PD6 "PD6/USART2_RX", 123 PD7 "PD7/TIM9_CH2/USART2_CK", 133 PB3 "PB3/JTDO/TIM2_CH2/SPI1_SCK/SPI3_SCK/I2S3_CK/LCD_SEG7/COMP2_INM", 134 PB4 "PB4/NJTRST/TIM3_CH1/SPI1_MISO/SPI3_MISO/LCD_SEG8/COMP2_INP", 135 PB5 "PB5/TIM3_CH2/I2C1_SMBA/SPI1_MOSI/SPI3_MOSI/I2S3_SD/LCD_SEG9/COMP2_INP", 136 PB6 "PB6/TIM4_CH1/I2C1_SCL/USART1_TX/COMP2_INP", 137 PB7 "PB7/TIM4_CH2/I2C1_SDA/USART1_RX/PVD_IN/COMP2_INP", 139 PB8 "PB8/TIM4_CH3/TIM10_CH1/I2C1_SCL/LCD_SEG16", 140 PB9 "PB9/TIM4_CH4/TIM11_CH1/I2C1_SDA/LCD_COM3"
part B pins: 1 PE2 "PE2/TIM3_ETR/LCD_SEG38/TRACECLK", 2 PE3 "PE3/TIM3_CH1/LCD_SEG39/TRACED0", 3 PE4 "PE4/TIM3_CH2/TRACED1", 4 PE5 "PE5/TIM9_CH1/TRACED2", 5 PE6-WKUP3 "PE6-WKUP3/PE6/WKUP3/RTC_TAMP3/TIM9_CH2/TRACED3", 10 PF0, 11 PF1, 12 PF2, 13 PF3, 14 PF4, 15 PF5, 18 PF6 "PF6/TIM5_CH1/TIM5_ETR/ADC_IN27", 19 PF7 "PF7/TIM5_CH2/ADC_IN28/COMP1_INP", 20 PF8 "PF8/TIM5_CH3/ADC_IN29/COMP1_INP", 21 PF9 "PF9/TIM5_CH4/ADC_IN30/COMP1_INP", 22 PF10 "PF10/ADC_IN30/COMP1_INP", 23 PH0-OSC_IN "PH0-OSC_IN/PH0/OSC_IN", 24 PH1-OSC_OUT "PH1-OSC_OUT/PH1/OSC_OUT", 25 NRST, 49 PF11 "PF11/ADC_IN1B/COMP1_INP", 50 PF12 "PF12/ADC_IN2B/COMP1_INP", 53 PF13 "PF13/ADC_IN3B/COMP1_INP", 54 PF14 "PF14/ADC_IN6B/COMP1_INP", 55 PF15 "PF15/ADC_IN7B/COMP1_INP", 56 PG0 "PG0/ADC_IN8B/COMP1_INP", 57 PG1 "PG1/ADC_IN9B/COMP1_INP", 58 PE7 "PE7/ADC_IN22/COMP1_INP", 59 PE8 "PE8/ADC_IN23/COMP1_INP", 60 PE9 "PE9/TIM2_CH1_ETR/ADC_IN24/COMP1_INP", 63 PE10 "PE10/TIM2_CH2/ADC_IN25/COMP1_INP", 64 PE11 "PE11/TIM2_CH3", 65 PE12 "PE12/TIM2_CH4/SPI1_NSS", 66 PE13 "PE13/SPI1_SCK", 67 PE14 "PE14/SPI1_MISO", 68 PE15 "PE15/SPI1_MOSI", 87 PG2 "PG2/ADC_IN10B/COMP1_INP", 88 PG3 "PG3/ADC_IN11B/COMP1_INP", 89 PG4 "PG4/ADC_IN12B/COMP1_INP", 90 PG5, 91 PG6, 92 PG7, 93 PG8, 106 PH2, 124 PG9, 125 PG10, 126 PG11, 127 PG12, 128 PG13, 129 PG14, 132 PG15, 138 BOOT0, 141 PE0 "PE0/TIM4_ETR/TIM10_CH1/LCD_SEG36", 142 PE1 "PE1/TIM11_CH1/LCD_SEG37"
part C pins: 6 VLCD, 16 VSS_5, 17 VDD_5, 30 VSSA, 31 VREF-, 32 VREF+, 33 VDDA, 38 VSS_4, 39 VDD_4, 51 VSS_6, 52 VDD_6, 61 VSS_7, 62 VDD_7, 71 VSS_1, 72 VDD_1, 83 VSS_8, 84 VDD_8, 94 VSS_9, 95 VDD_9, 107 VSS_2, 108 VDD_2, 120 VSS_10, 121 VDD_10, 130 VSS_11, 131 VDD_11, 143 VSS_3, 144 VDD_3

## STM32L031K_
designator U?
General Purpose, 16-Bit Flash Microcontrollers with  Cryptographic Engine; Value: STM32L031K_
footprint LQFP32 P0.8 C7.0x7.0 H1.6 (TQFP, 32-Leads, Body 7.00x7.00mm, Pitch 0.80mm, IPC Medium Density)
pins: 1 VDD, 2 PC14-OSC IN, 3 PA15-OSC32 OUT, 4 NRST, 5 VDDA, 6 PA0, 7 PA1, 8 PA2, 9 PA3, 10 PA4, 11 PA5, 12 PA6, 13 PA7, 14 PB0, 15 PB1, 16 VSS, 17 VDD, 18 PA8, 19 PA9, 20 PA10, 21 PA11, 22 PA12, 23 PA13, 24 PA14, 25 PA15, 26 PB3, 27 PB4, 28 PB5, 29 PB6, 30 PB7, 31 BOOT0, 32 VSS

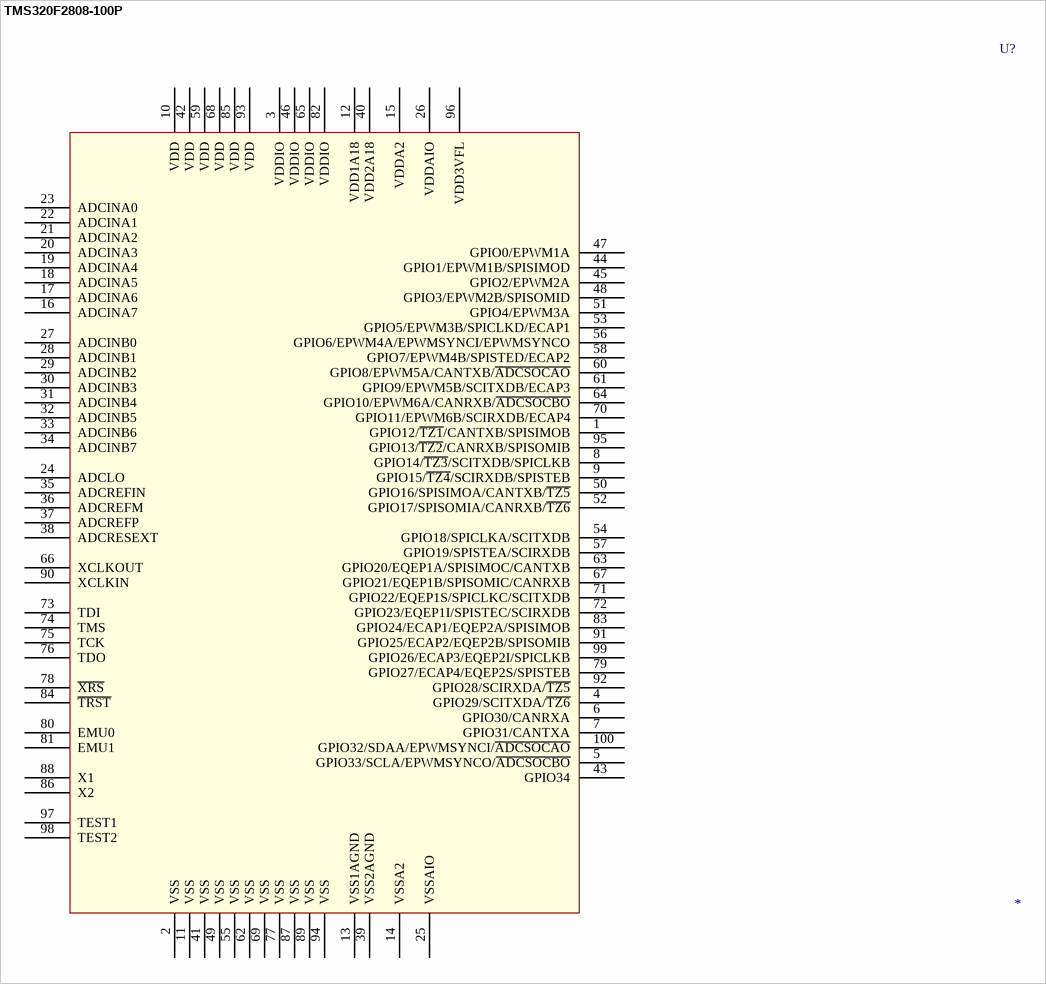
[diagram p17: symbol TMS320F2808-100P]

## TMS320F2808-100P
designator U?
TMS320F2808-100P; Value: *
footprint QFP100 P0.5 C14X14 H1.4 (QFP, 100-Leads, Body 14x14mm, Pitch 0.5mm, IPC Medium Density)
pins: 1 GPIO12/~{TZ1}/CANTXB/SPISIMOB, 2 VSS, 3 VDDIO, 4 GPIO29/SCITXDA/~{TZ6}, 5 GPIO33/SCLA/EPWMSYNCO/~{ADCSOCBO}, 6 GPIO30/CANRXA, 7 GPIO31/CANTXA, 8 GPIO14/~{TZ3}/SCITXDB/SPICLKB, 9 GPIO15/~{TZ4}/SCIRXDB/SPISTEB, 10 VDD, 11 VSS, 12 VDD1A18, 13 VSS1AGND, 14 VSSA2, 15 VDDA2, 16 ADCINA7, 17 ADCINA6, 18 ADCINA5, 19 ADCINA4, 20 ADCINA3, 21 ADCINA2, 22 ADCINA1, 23 ADCINA0, 24 ADCLO, 25 VSSAIO, 26 VDDAIO, 27 ADCINB0, 28 ADCINB1, 29 ADCINB2, 30 ADCINB3, 31 ADCINB4, 32 ADCINB5, 33 ADCINB6, 34 ADCINB7, 35 ADCREFIN, 36 ADCREFM, 37 ADCREFP, 38 ADCRESEXT, 39 VSS2AGND, 40 VDD2A18, 41 VSS, 42 VDD, 43 GPIO34, 44 GPIO1/EPWM1B/SPISIMOD, 45 GPIO2/EPWM2A, 46 VDDIO, 47 GPIO0/EPWM1A, 48 GPIO3/EPWM2B/SPISOMID, 49 VSS, 50 GPIO16/SPISIMOA/CANTXB/~{TZ5}, 51 GPIO4/EPWM3A, 52 GPIO17/SPISOMIA/CANRXB/~{TZ6}, 53 GPIO5/EPWM3B/SPICLKD/ECAP1, 54 GPIO18/SPICLKA/SCITXDB, 55 VSS, 56 GPIO6/EPWM4A/EPWMSYNCI/EPWMSYNCO, 57 GPIO19/SPISTEA/SCIRXDB, 58 GPIO7/EPWM4B/SPISTED/ECAP2, 59 VDD, 60 GPIO8/EPWM5A/CANTXB/~{ADCSOCAO}, 61 GPIO9/EPWM5B/SCITXDB/ECAP3, 62 VSS, 63 GPIO20/EQEP1A/SPISIMOC/CANTXB, 64 GPIO10/EPWM6A/CANRXB/~{ADCSOCBO}, 65 VDDIO, 66 XCLKOUT, 67 GPIO21/EQEP1B/SPISOMIC/CANRXB, 68 VDD, 69 VSS, 70 GPIO11/EPWM6B/SCIRXDB/ECAP4, 71 GPIO22/EQEP1S/SPICLKC/SCITXDB, 72 GPIO23/EQEP1I/SPISTEC/SCIRXDB, 73 TDI, 74 TMS, 75 TCK, 76 TDO, 77 VSS, 78 ~{XRS}, 79 GPIO27/ECAP4/EQEP2S/SPISTEB, 80 EMU0, 81 EMU1, 82 VDDIO, 83 GPIO24/ECAP1/EQEP2A/SPISIMOB, 84 ~{TRST}, 85 VDD, 86 X2, 87 VSS, 88 X1, 89 VSS, 90 XCLKIN, 91 GPIO25/ECAP2/EQEP2B/SPISOMIB, 92 GPIO28/SCIRXDA/~{TZ5}, 93 VDD, 94 VSS, 95 GPIO13/~{TZ2}/CANRXB/SPISOMIB, 96 VDD3VFL, 97 TEST1, 98 TEST2, 99 GPIO26/ECAP3/EQEP2I/SPICLKB, 100 GPIO32/SDAA/EPWMSYNCI/~{ADCSOCAO}

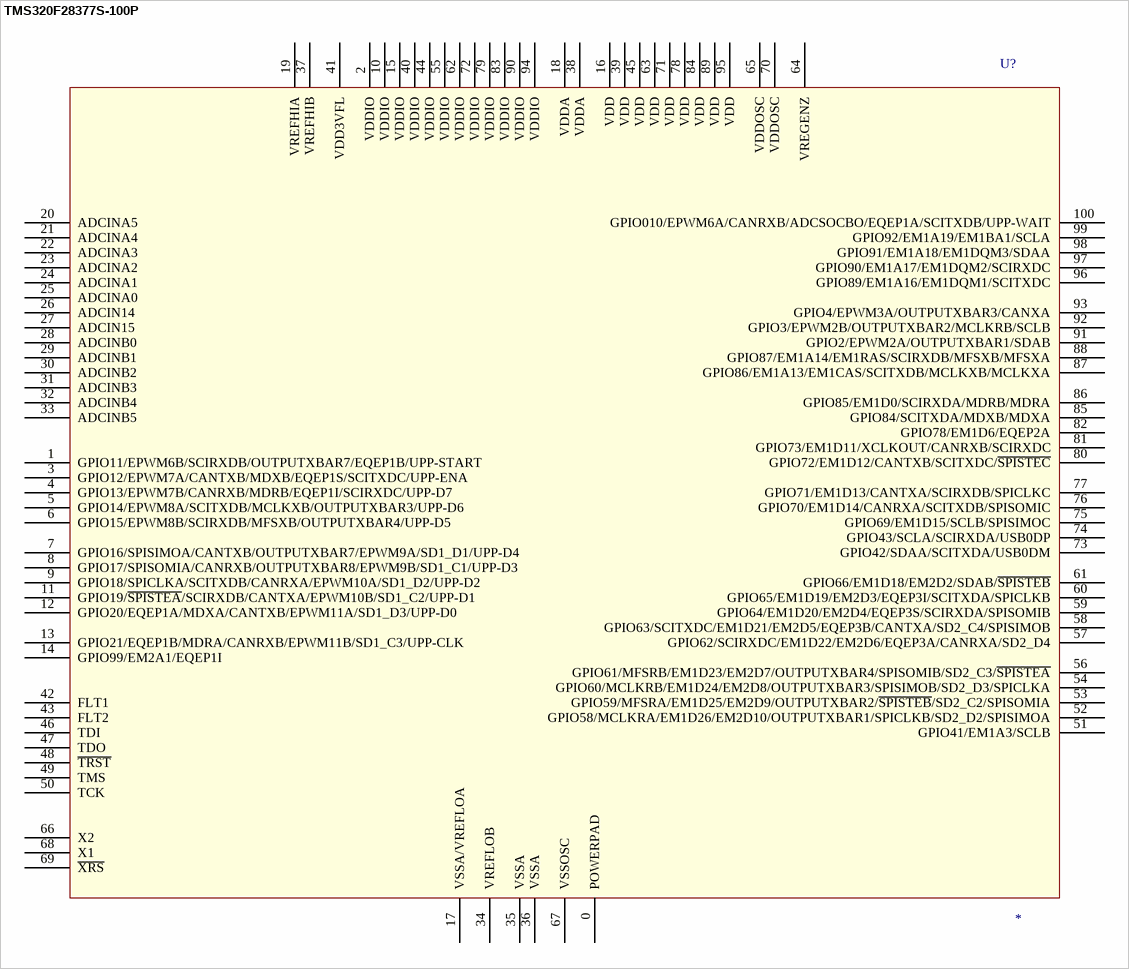
[diagram p18: symbol TMS320F28377S-100P]

## TMS320F28377S-100P
designator U?
TMS320F28377S-100P; Value: *
footprint TQFP100 P0.5 T8.6X8.6 C14X14 H1.2 (TSQFP, 100-Leads, Body 14.00x14.00mm, Pitch 0.50mm, Thermal Pad 8.64x8.64mm, IPC High Density)
pins: 0 POWERPAD, 1 GPIO11/EPWM6B/SCIRXDB/OUTPUTXBAR7/EQEP1B/UPP-START, 2 VDDIO, 3 GPIO12/EPWM7A/CANTXB/MDXB/EQEP1S/SCITXDC/UPP-ENA, 4 GPIO13/EPWM7B/CANRXB/MDRB/EQEP1I/SCIRXDC/UPP-D7, 5 GPIO14/EPWM8A/SCITXDB/MCLKXB/OUTPUTXBAR3/UPP-D6, 6 GPIO15/EPWM8B/SCIRXDB/MFSXB/OUTPUTXBAR4/UPP-D5, 7 GPIO16/SPISIMOA/CANTXB/OUTPUTXBAR7/EPWM9A/SD1_D1/UPP-D4, 8 GPIO17/SPISOMIA/CANRXB/OUTPUTXBAR8/EPWM9B/SD1_C1/UPP-D3, 9 GPIO18/SPICLKA/SCITXDB/CANRXA/EPWM10A/SD1_D2/UPP-D2, 10 VDDIO, 11 GPIO19/~{SPISTEA}/SCIRXDB/CANTXA/EPWM10B/SD1_C2/UPP-D1, 12 GPIO20/EQEP1A/MDXA/CANTXB/EPWM11A/SD1_D3/UPP-D0, 13 GPIO21/EQEP1B/MDRA/CANRXB/EPWM11B/SD1_C3/UPP-CLK, 14 GPIO99/EM2A1/EQEP1I, 15 VDDIO, 16 VDD, 17 VSSA/VREFLOA, 18 VDDA, 19 VREFHIA, 20 ADCINA5, 21 ADCINA4, 22 ADCINA3, 23 ADCINA2, 24 ADCINA1, 25 ADCINA0, 26 ADCIN14, 27 ADCIN15, 28 ADCINB0, 29 ADCINB1, 30 ADCINB2, 31 ADCINB3, 32 ADCINB4, 33 ADCINB5, 34 VREFLOB, 35 VSSA, 36 VSSA, 37 VREFHIB, 38 VDDA, 39 VDD, 40 VDDIO, 41 VDD3VFL, 42 FLT1, 43 FLT2, 44 VDDIO, 45 VDD, 46 TDI, 47 TDO, 48 ~{TRST}, 49 TMS, 50 TCK, 51 GPIO41/EM1A3/SCLB, 52 GPIO58/MCLKRA/EM1D26/EM2D10/OUTPUTXBAR1/SPICLKB/SD2_D2/SPISIMOA, 53 GPIO59/MFSRA/EM1D25/EM2D9/OUTPUTXBAR2/~{SPISTEB}/SD2_C2/SPISOMIA, 54 GPIO60/MCLKRB/EM1D24/EM2D8/OUTPUTXBAR3/SPISIMOB/SD2_D3/SPICLKA, 55 VDDIO, 56 GPIO61/MFSRB/EM1D23/EM2D7/OUTPUTXBAR4/SPISOMIB/SD2_C3/~{SPISTEA}, 57 GPIO62/SCIRXDC/EM1D22/EM2D6/EQEP3A/CANRXA/SD2_D4, 58 GPIO63/SCITXDC/EM1D21/EM2D5/EQEP3B/CANTXA/SD2_C4/SPISIMOB, 59 GPIO64/EM1D20/EM2D4/EQEP3S/SCIRXDA/SPISOMIB, 60 GPIO65/EM1D19/EM2D3/EQEP3I/SCITXDA/SPICLKB, 61 GPIO66/EM1D18/EM2D2/SDAB/~{SPISTEB}, 62 VDDIO, 63 VDD, 64 VREGENZ, 65 VDDOSC, 66 X2, 67 VSSOSC, 68 X1, 69 ~{XRS}, 70 VDDOSC, 71 VDD, 72 VDDIO, 73 GPIO42/SDAA/SCITXDA/USB0DM, 74 GPIO43/SCLA/SCIRXDA/USB0DP, 75 GPIO69/EM1D15/SCLB/SPISIMOC, 76 GPIO70/EM1D14/CANRXA/SCITXDB/SPISOMIC, 77 GPIO71/EM1D13/CANTXA/SCIRXDB/SPICLKC, 78 VDD, 79 VDDIO, 80 GPIO72/EM1D12/CANTXB/SCITXDC/~{SPISTEC}, 81 GPIO73/EM1D11/XCLKOUT/CANRXB/SCIRXDC, 82 GPIO78/EM1D6/EQEP2A, 83 VDDIO, 84 VDD, 85 GPIO84/SCITXDA/MDXB/MDXA, 86 GPIO85/EM1D0/SCIRXDA/MDRB/MDRA, 87 GPIO86/EM1A13/EM1CAS/SCITXDB/MCLKXB/MCLKXA, 88 GPIO87/EM1A14/EM1RAS/SCIRXDB/MFSXB/MFSXA, 89 VDD, 90 VDDIO, 91 GPIO2/EPWM2A/OUTPUTXBAR1/SDAB, 92 GPIO3/EPWM2B/OUTPUTXBAR2/MCLKRB/SCLB, 93 GPIO4/EPWM3A/OUTPUTXBAR3/CANXA, 94 VDDIO, 95 VDD, 96 GPIO89/EM1A16/EM1DQM1/SCITXDC, 97 GPIO90/EM1A17/EM1DQM2/SCIRXDC, 98 GPIO91/EM1A18/EM1DQM3/SDAA, 99 GPIO92/EM1A19/EM1BA1/SCLA, 100 GPIO010/EPWM6A/CANRXB/ADCSOCBO/EQEP1A/SCITXDB/UPP-WAIT

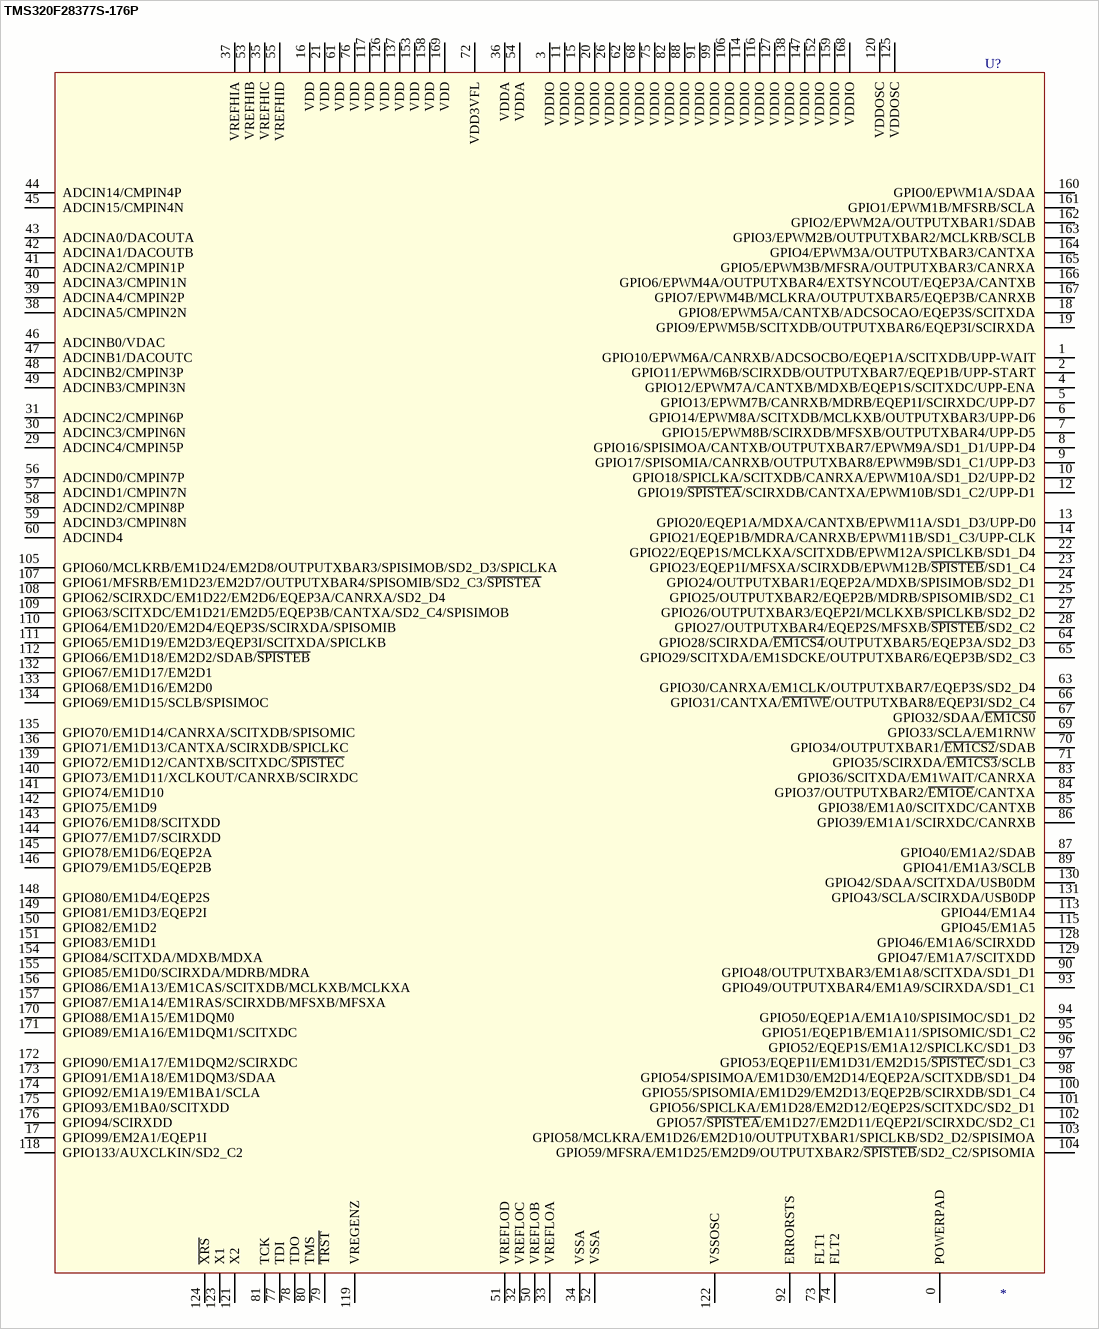
[diagram p19: symbol TMS320F28377S-176P]

## TMS320F28377S-176P
designator U?
TMS320F28377S-176P; Value: *
footprint PQFP176 P0.5 C24.2X24.2 H1.5
pins: 0 POWERPAD, 1 GPIO10/EPWM6A/CANRXB/ADCSOCBO/EQEP1A/SCITXDB/UPP-WAIT, 2 GPIO11/EPWM6B/SCIRXDB/OUTPUTXBAR7/EQEP1B/UPP-START, 3 VDDIO, 4 GPIO12/EPWM7A/CANTXB/MDXB/EQEP1S/SCITXDC/UPP-ENA, 5 GPIO13/EPWM7B/CANRXB/MDRB/EQEP1I/SCIRXDC/UPP-D7, 6 GPIO14/EPWM8A/SCITXDB/MCLKXB/OUTPUTXBAR3/UPP-D6, 7 GPIO15/EPWM8B/SCIRXDB/MFSXB/OUTPUTXBAR4/UPP-D5, 8 GPIO16/SPISIMOA/CANTXB/OUTPUTXBAR7/EPWM9A/SD1_D1/UPP-D4, 9 GPIO17/SPISOMIA/CANRXB/OUTPUTXBAR8/EPWM9B/SD1_C1/UPP-D3, 10 GPIO18/SPICLKA/SCITXDB/CANRXA/EPWM10A/SD1_D2/UPP-D2, 11 VDDIO, 12 GPIO19/~{SPISTEA}/SCIRXDB/CANTXA/EPWM10B/SD1_C2/UPP-D1, 13 GPIO20/EQEP1A/MDXA/CANTXB/EPWM11A/SD1_D3/UPP-D0, 14 GPIO21/EQEP1B/MDRA/CANRXB/EPWM11B/SD1_C3/UPP-CLK, 15 VDDIO, 16 VDD, 17 GPIO99/EM2A1/EQEP1I, 18 GPIO8/EPWM5A/CANTXB/ADCSOCAO/EQEP3S/SCITXDA, 19 GPIO9/EPWM5B/SCITXDB/OUTPUTXBAR6/EQEP3I/SCIRXDA, 20 VDDIO, 21 VDD, 22 GPIO22/EQEP1S/MCLKXA/SCITXDB/EPWM12A/SPICLKB/SD1_D4, 23 GPIO23/EQEP1I/MFSXA/SCIRXDB/EPWM12B/~{SPISTEB}/SD1_C4, 24 GPIO24/OUTPUTXBAR1/EQEP2A/MDXB/SPISIMOB/SD2_D1, 25 GPIO25/OUTPUTXBAR2/EQEP2B/MDRB/SPISOMIB/SD2_C1, 26 VDDIO, 27 GPIO26/OUTPUTXBAR3/EQEP2I/MCLKXB/SPICLKB/SD2_D2, 28 GPIO27/OUTPUTXBAR4/EQEP2S/MFSXB/~{SPISTEB}/SD2_C2, 29 ADCINC4/CMPIN5P, 30 ADCINC3/CMPIN6N, 31 ADCINC2/CMPIN6P, 32 VREFLOC, 33 VREFLOA, 34 VSSA, 35 VREFHIC, 36 VDDA, 37 VREFHIA, 38 ADCINA5/CMPIN2N, 39 ADCINA4/CMPIN2P, 40 ADCINA3/CMPIN1N, 41 ADCINA2/CMPIN1P, 42 ADCINA1/DACOUTB, 43 ADCINA0/DACOUTA, 44 ADCIN14/CMPIN4P, 45 ADCIN15/CMPIN4N, 46 ADCINB0/VDAC, 47 ADCINB1/DACOUTC, 48 ADCINB2/CMPIN3P, 49 ADCINB3/CMPIN3N, 50 VREFLOB, 51 VREFLOD, 52 VSSA, 53 VREFHIB, 54 VDDA, 55 VREFHID, 56 ADCIND0/CMPIN7P, 57 ADCIND1/CMPIN7N, 58 ADCIND2/CMPIN8P, 59 ADCIND3/CMPIN8N, 60 ADCIND4, 61 VDD, 62 VDDIO, 63 GPIO30/CANRXA/EM1CLK/OUTPUTXBAR7/EQEP3S/SD2_D4, 64 GPIO28/SCIRXDA/~{EM1CS4}/OUTPUTXBAR5/EQEP3A/SD2_D3, 65 GPIO29/SCITXDA/EM1SDCKE/OUTPUTXBAR6/EQEP3B/SD2_C3, 66 GPIO31/CANTXA/~{EM1WE}/OUTPUTXBAR8/EQEP3I/SD2_C4, 67 GPIO32/SDAA/~{EM1CS0}, 68 VDDIO, 69 GPIO33/SCLA/EM1RNW, 70 GPIO34/OUTPUTXBAR1/~{EM1CS2}/SDAB, 71 GPIO35/SCIRXDA/~{EM1CS3}/SCLB, 72 VDD3VFL, 73 FLT1, 74 FLT2, 75 VDDIO, 76 VDD, 77 TDI, 78 TDO, 79 ~{TRST}, 80 TMS, 81 TCK, 82 VDDIO, 83 GPIO36/SCITXDA/EM1WAIT/CANRXA, 84 GPIO37/OUTPUTXBAR2/~{EM1OE}/CANTXA, 85 GPIO38/EM1A0/SCITXDC/CANTXB, 86 GPIO39/EM1A1/SCIRXDC/CANRXB, 87 GPIO40/EM1A2/SDAB, 88 VDDIO, 89 GPIO41/EM1A3/SCLB, 90 GPIO48/OUTPUTXBAR3/EM1A8/SCITXDA/SD1_D1, 91 VDDIO, 92 ERRORSTS, 93 GPIO49/OUTPUTXBAR4/EM1A9/SCIRXDA/SD1_C1, 94 GPIO50/EQEP1A/EM1A10/SPISIMOC/SD1_D2, 95 GPIO51/EQEP1B/EM1A11/SPISOMIC/SD1_C2, 96 GPIO52/EQEP1S/EM1A12/SPICLKC/SD1_D3, 97 GPIO53/EQEP1I/EM1D31/EM2D15/~{SPISTEC}/SD1_C3, 98 GPIO54/SPISIMOA/EM1D30/EM2D14/EQEP2A/SCITXDB/SD1_D4, 99 VDDIO, 100 GPIO55/SPISOMIA/EM1D29/EM2D13/EQEP2B/SCIRXDB/SD1_C4, 101 GPIO56/SPICLKA/EM1D28/EM2D12/EQEP2S/SCITXDC/SD2_D1, 102 GPIO57/~{SPISTEA}/EM1D27/EM2D11/EQEP2I/SCIRXDC/SD2_C1, 103 GPIO58/MCLKRA/EM1D26/EM2D10/OUTPUTXBAR1/SPICLKB/SD2_D2/SPISIMOA, 104 GPIO59/MFSRA/EM1D25/EM2D9/OUTPUTXBAR2/~{SPISTEB}/SD2_C2/SPISOMIA, 105 GPIO60/MCLKRB/EM1D24/EM2D8/OUTPUTXBAR3/SPISIMOB/SD2_D3/SPICLKA, 106 VDDIO, 107 GPIO61/MFSRB/EM1D23/EM2D7/OUTPUTXBAR4/SPISOMIB/SD2_C3/~{SPISTEA}, 108 GPIO62/SCIRXDC/EM1D22/EM2D6/EQEP3A/CANRXA/SD2_D4, 109 GPIO63/SCITXDC/EM1D21/EM2D5/EQEP3B/CANTXA/SD2_C4/SPISIMOB, 110 GPIO64/EM1D20/EM2D4/EQEP3S/SCIRXDA/SPISOMIB, 111 GPIO65/EM1D19/EM2D3/EQEP3I/SCITXDA/SPICLKB, 112 GPIO66/EM1D18/EM2D2/SDAB/~{SPISTEB}, 113 GPIO44/EM1A4, 114 VDDIO, 115 GPIO45/EM1A5, 116 VDDIO, 117 VDD, 118 GPIO133/AUXCLKIN/SD2_C2, 119 VREGENZ, 120 VDDOSC, 121 X2, 122 VSSOSC, 123 X1, 124 ~{XRS}, 125 VDDOSC, 126 VDD, 127 VDDIO, 128 GPIO46/EM1A6/SCIRXDD, 129 GPIO47/EM1A7/SCITXDD, 130 GPIO42/SDAA/SCITXDA/USB0DM, 131 GPIO43/SCLA/SCIRXDA/USB0DP, 132 GPIO67/EM1D17/EM2D1, 133 GPIO68/EM1D16/EM2D0, 134 GPIO69/EM1D15/SCLB/SPISIMOC, 135 GPIO70/EM1D14/CANRXA/SCITXDB/SPISOMIC, 136 GPIO71/EM1D13/CANTXA/SCIRXDB/SPICLKC, 137 VDD, 138 VDDIO, 139 GPIO72/EM1D12/CANTXB/SCITXDC/~{SPISTEC}, 140 GPIO73/EM1D11/XCLKOUT/CANRXB/SCIRXDC, 141 GPIO74/EM1D10, 142 GPIO75/EM1D9, 143 GPIO76/EM1D8/SCITXDD, 144 GPIO77/EM1D7/SCIRXDD, 145 GPIO78/EM1D6/EQEP2A, 146 GPIO79/EM1D5/EQEP2B, 147 VDDIO, 148 GPIO80/EM1D4/EQEP2S, 149 GPIO81/EM1D3/EQEP2I, 150 GPIO82/EM1D2, 151 GPIO83/EM1D1, 152 VDDIO, 153 VDD, 154 GPIO84/SCITXDA/MDXB/MDXA, 155 GPIO85/EM1D0/SCIRXDA/MDRB/MDRA, 156 GPIO86/EM1A13/EM1CAS/SCITXDB/MCLKXB/MCLKXA, 157 GPIO87/EM1A14/EM1RAS/SCIRXDB/MFSXB/MFSXA, 158 VDD, 159 VDDIO, 160 GPIO0/EPWM1A/SDAA, 161 GPIO1/EPWM1B/MFSRB/SCLA, 162 GPIO2/EPWM2A/OUTPUTXBAR1/SDAB, 163 GPIO3/EPWM2B/OUTPUTXBAR2/MCLKRB/SCLB, 164 GPIO4/EPWM3A/OUTPUTXBAR3/CANTXA, 165 GPIO5/EPWM3B/MFSRA/OUTPUTXBAR3/CANRXA, 166 GPIO6/EPWM4A/OUTPUTXBAR4/EXTSYNCOUT/EQEP3A/CANTXB, 167 GPIO7/EPWM4B/MCLKRA/OUTPUTXBAR5/EQEP3B/CANRXB, 168 VDDIO, 169 VDD, 170 GPIO88/EM1A15/EM1DQM0, 171 GPIO89/EM1A16/EM1DQM1/SCITXDC, 172 GPIO90/EM1A17/EM1DQM2/SCIRXDC, 173 GPIO91/EM1A18/EM1DQM3/SDAA, 174 GPIO92/EM1A19/EM1BA1/SCLA, 175 GPIO93/EM1BA0/SCITXDD, 176 GPIO94/SCIRXDD

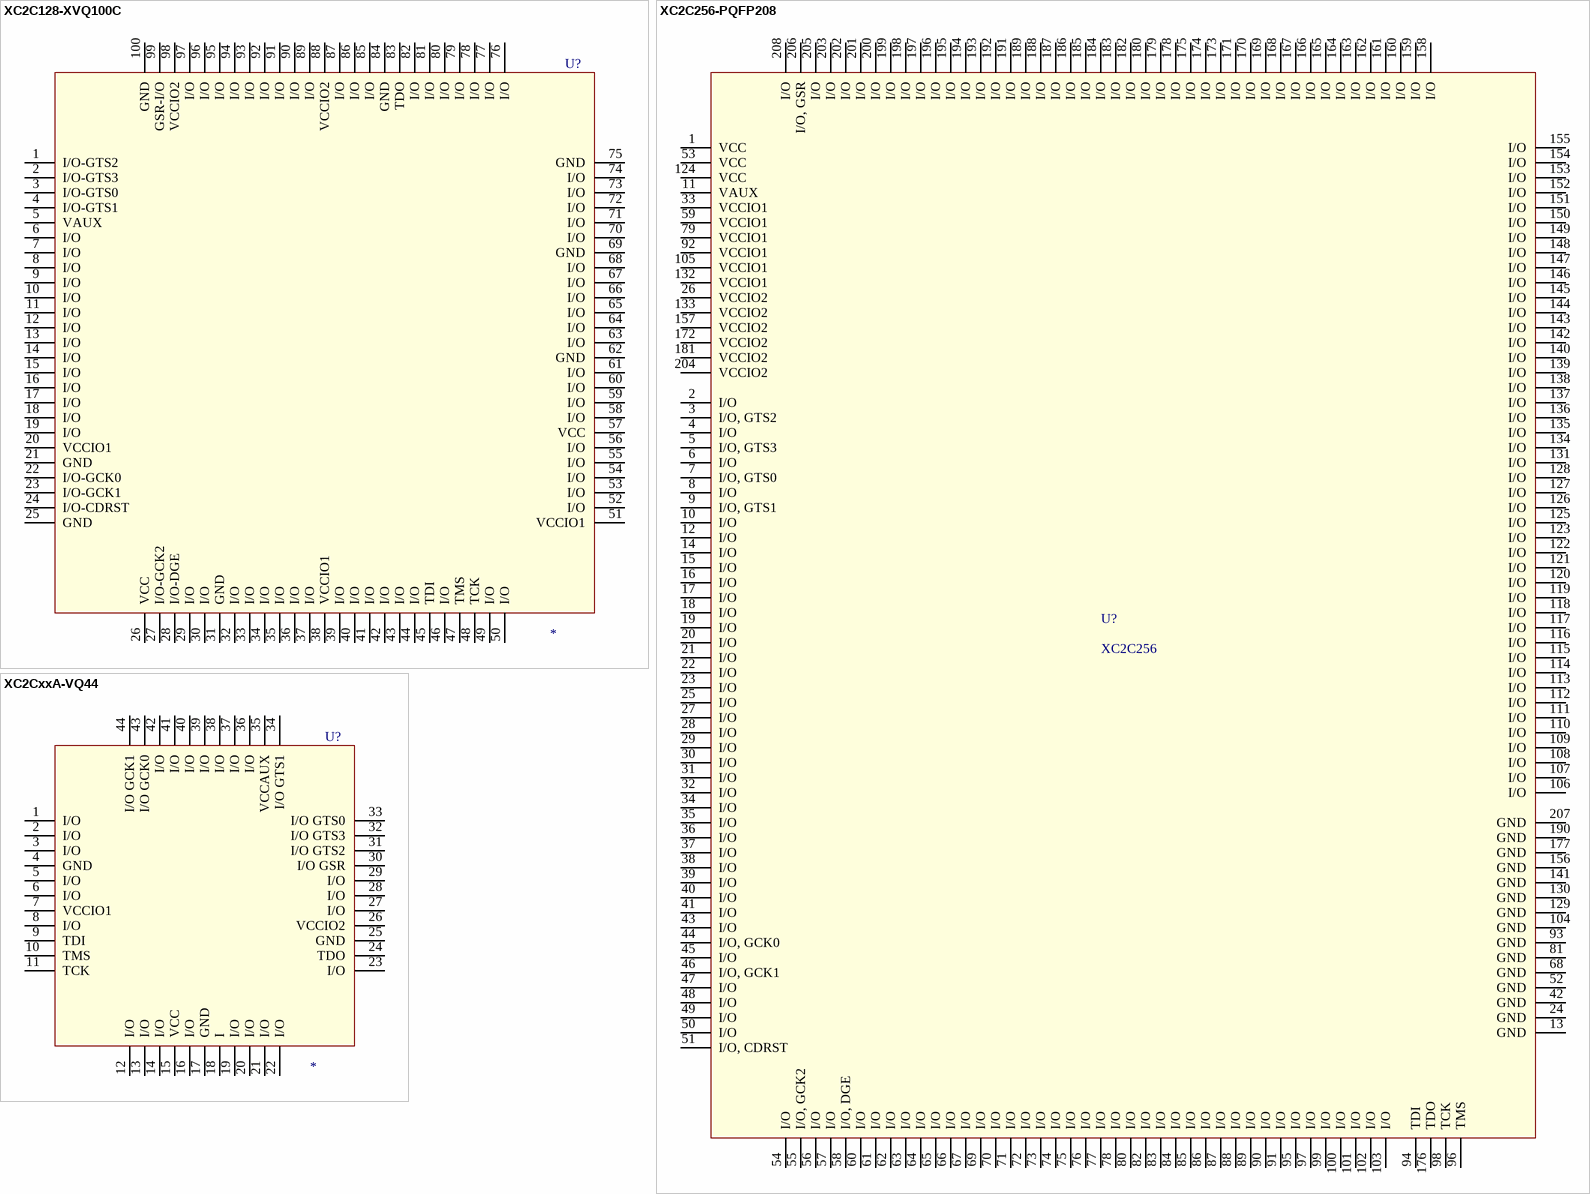
[diagram p20: symbols XC2C128-XVQ100C to XC2CxxA-VQ44]

## XC2C128-XVQ100C
designator U?
XC2C128 CoolRunner-II CPLD; value: *
footprint VQ100 P0.5 C14x14 H1.2 (Thin QFP, 100-Leads, Body 14x14mm, Pitch 0.5mm, IPC Medium Density)
pins: 1 I/O-GTS2, 2 I/O-GTS3, 3 I/O-GTS0, 4 I/O-GTS1, 5 VAUX, 6 I/O, 7 I/O, 8 I/O, 9 I/O, 10 I/O, 11 I/O, 12 I/O, 13 I/O, 14 I/O, 15 I/O, 16 I/O, 17 I/O, 18 I/O, 19 I/O, 20 VCCIO1, 21 GND, 22 I/O-GCK0, 23 I/O-GCK1, 24 I/O-CDRST, 25 GND, 26 VCC, 27 I/O-GCK2, 28 I/O-DGE, 29 I/O, 30 I/O, 31 GND, 32 I/O, 33 I/O, 34 I/O, 35 I/O, 36 I/O, 37 I/O, 38 VCCIO1, 39 I/O, 40 I/O, 41 I/O, 42 I/O, 43 I/O, 44 I/O, 45 TDI, 46 I/O, 47 TMS, 48 TCK, 49 I/O, 50 I/O, 51 VCCIO1, 52 I/O, 53 I/O, 54 I/O, 55 I/O, 56 I/O, 57 VCC, 58 I/O, 59 I/O, 60 I/O, 61 I/O, 62 GND, 63 I/O, 64 I/O, 65 I/O, 66 I/O, 67 I/O, 68 I/O, 69 GND, 70 I/O, 71 I/O, 72 I/O, 73 I/O, 74 I/O, 75 GND, 76 I/O, 77 I/O, 78 I/O, 79 I/O, 80 I/O, 81 I/O, 82 I/O, 83 TDO, 84 GND, 85 I/O, 86 I/O, 87 I/O, 88 VCCIO2, 89 I/O, 90 I/O, 91 I/O, 92 I/O, 93 I/O, 94 I/O, 95 I/O, 96 I/O, 97 I/O, 98 VCCIO2, 99 GSR-I/O, 100 GND

## XC2C256-PQFP208
designator U?, comment XC2C256
XC2C256 CoolRunner-II CPLD; value: XC2C256
footprint PQFP208 P0.5 C28.0X28.0 H3.7 (PQFP, 208-Leads, Body 28.00x28.00mm, Pitch 0.50mm, IPC Medium Density)
pins: 1 VCC, 2 I/O, 3 I/O, GTS2, 4 I/O, 5 I/O, GTS3, 6 I/O, 7 I/O, GTS0, 8 I/O, 9 I/O, GTS1, 10 I/O, 11 VAUX, 12 I/O, 13 GND, 14 I/O, 15 I/O, 16 I/O, 17 I/O, 18 I/O, 19 I/O, 20 I/O, 21 I/O, 22 I/O, 23 I/O, 24 GND, 25 I/O, 26 VCCIO2, 27 I/O, 28 I/O, 29 I/O, 30 I/O, 31 I/O, 32 I/O, 33 VCCIO1, 34 I/O, 35 I/O, 36 I/O, 37 I/O, 38 I/O, 39 I/O, 40 I/O, 41 I/O, 42 GND, 43 I/O, 44 I/O, GCK0, 45 I/O, 46 I/O, GCK1, 47 I/O, 48 I/O, 49 I/O, 50 I/O, 51 I/O, CDRST, 52 GND, 53 VCC, 54 I/O, 55 I/O, GCK2, 56 I/O, 57 I/O, 58 I/O, DGE, 59 VCCIO1, 60 I/O, 61 I/O, 62 I/O, 63 I/O, 64 I/O, 65 I/O, 66 I/O, 67 I/O, 68 GND, 69 I/O, 70 I/O, 71 I/O, 72 I/O, 73 I/O, 74 I/O, 75 I/O, 76 I/O, 77 I/O, 78 I/O, 79 VCCIO1, 80 I/O, 81 GND, 82 I/O, 83 I/O, 84 I/O, 85 I/O, 86 I/O, 87 I/O, 88 I/O, 89 I/O, 90 I/O, 91 I/O, 92 VCCIO1, 93 GND, 94 TDI, 95 I/O, 96 TMS, 97 I/O, 98 TCK, 99 I/O, 100 I/O, 101 I/O, 102 I/O, 103 I/O, 104 GND, 105 VCCIO1, 106 I/O, 107 I/O, 108 I/O, 109 I/O, 110 I/O, 111 I/O, 112 I/O, 113 I/O, 114 I/O, 115 I/O, 116 I/O, 117 I/O, 118 I/O, 119 I/O, 120 I/O, 121 I/O, 122 I/O, 123 I/O, 124 VCC, 125 I/O, 126 I/O, 127 I/O, 128 I/O, 129 GND, 130 GND, 131 I/O, 132 VCCIO1, 133 VCCIO2, 134 I/O, 135 I/O, 136 I/O, 137 I/O, 138 I/O, 139 I/O, 140 I/O, 141 GND, 142 I/O, 143 I/O, 144 I/O, 145 I/O, 146 I/O, 147 I/O, 148 I/O, 149 I/O, 150 I/O, 151 I/O, 152 I/O, 153 I/O, 154 I/O, 155 I/O, 156 GND, 157 VCCIO2, 158 I/O, 159 I/O, 160 I/O, 161 I/O, 162 I/O, 163 I/O, 164 I/O, 165 I/O, 166 I/O, 167 I/O, 168 I/O, 169 I/O, 170 I/O, 171 I/O, 172 VCCIO2, 173 I/O, 174 I/O, 175 I/O, 176 TDO, 177 GND, 178 I/O, 179 I/O, 180 I/O, 181 VCCIO2, 182 I/O, 183 I/O, 184 I/O, 185 I/O, 186 I/O, 187 I/O, 188 I/O, 189 I/O, 190 GND, 191 I/O, 192 I/O, 193 I/O, 194 I/O, 195 I/O, 196 I/O, 197 I/O, 198 I/O, 199 I/O, 200 I/O, 201 I/O, 202 I/O, 203 I/O, 204 VCCIO2, 205 I/O, 206 I/O, GSR, 207 GND, 208 I/O

## XC2CxxA-VQ44
designator U?
XC2CxxA CoolRunner-II CPLD; Value: *
footprint VQ44 P0.8 C10X10 H1.2 (TQFP, 44-Leads, Body 10.00x10.00mm, Pitch 0.80mm)
pins: 1 I/O, 2 I/O, 3 I/O, 4 GND, 5 I/O, 6 I/O, 7 VCCIO1, 8 I/O, 9 TDI, 10 TMS, 11 TCK, 12 I/O, 13 I/O, 14 I/O, 15 VCC, 16 I/O, 17 GND, 18 I, 19 I/O, 20 I/O, 21 I/O, 22 I/O, 23 I/O, 24 TDO, 25 GND, 26 VCCIO2, 27 I/O, 28 I/O, 29 I/O, 30 I/O GSR, 31 I/O GTS2, 32 I/O GTS3, 33 I/O GTS0, 34 I/O GTS1, 35 VCCAUX, 36 I/O, 37 I/O, 38 I/O, 39 I/O, 40 I/O, 41 I/O, 42 I/O, 43 I/O GCK0, 44 I/O GCK1

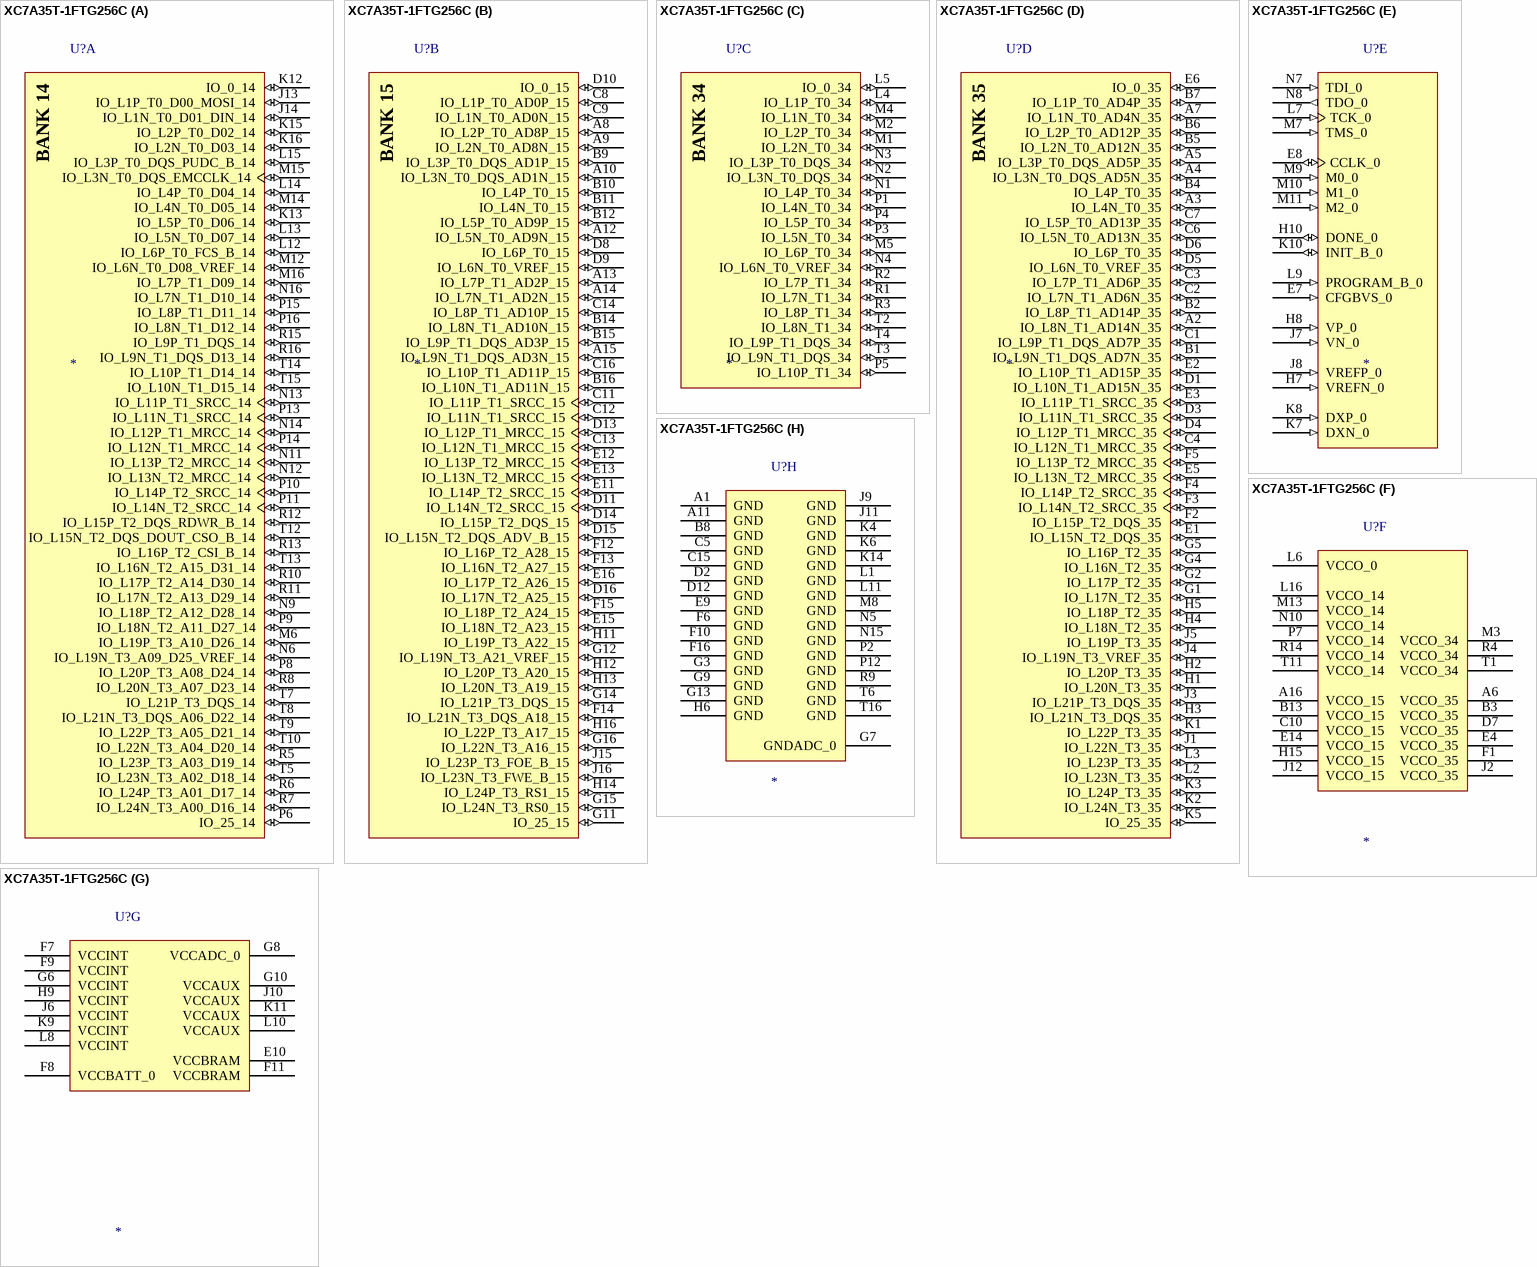
[diagram p21: symbol XC7A35T-1FTG256C]

## XC7A35T-1FTG256C
designator U?
Artix-7 FPGA, 170 User I/Os, 0 GTP, 256-Ball BGA, Speed Grade 1, Commercial Grade, Pb-Free; Manufacturer: Xilinx; Total Block RAM: 1800 Kb; GTP: 0; Clock Mgmt Tiles (CMTs): 5; Logic Cells: 33280; Available User I/O: 170; Speed Grades: 1; NexusDeviceID: XC7A35T-1FTG256C; DatasheetVersion: v1.15; PackageVersion: Rev. 1.11; PackageReference: FTG-256; PackageDescription: 256-Ball Wire-Bond Fine-Pitch Thin BGA, Body 17 x 17 mm, Pitch 1 mm; Maximum Distributed RAM: 400 Kb; Operating Temperature Range: Commercial; Mounting Technology: Surface Mount; PartNumber: XC7A35T-1FTG256C; ComponentLink1Description: Manufacturer URL; ComponentLink1URL: http://www.xilinx.com/; ComponentLink2Description: Datasheet; ComponentLink2URL: http://www.xilinx.com/support/documentation/data_sheets/ds180_7Series_Overview.pdf; ComponentLink3Description: Package Specification; ComponentLink3URL: http://www.xilinx.com/support/documentation/user_guides/ug475_7Series_Pkg_Pinout.pdf; ComponentLink4Description: DC and Switching Characteristics; ComponentLink4URL: http://www.xilinx.com/support/documentation/data_sheets/ds181_Artix_7_Data_Sheet.pdf; ComponentLink5Description: Package File; ComponentLink5URL: http://www.xilinx.com/support/packagefiles/a7packages/xc7a200tsbg484pkg.txt; ComponentLink6Description: Packaging and Pinout; ComponentLink6URL: http://www.xilinx.com/support/documentation/user_guides/ug475_7Series_Pkg_Pinout.pdf; Value: *
footprint BGA256 P1.0 C17.0X17.0 H1.55 (BGA, 256-Balls, Body 17x17mm, Pitch 1mm)
part A pins: J13 IO_L1P_T0_D00_MOSI_14 (io), J14 IO_L1N_T0_D01_DIN_14 (io), K12 IO_0_14 (io), K13 IO_L5P_T0_D06_14 (io), K15 IO_L2P_T0_D02_14 (io), K16 IO_L2N_T0_D03_14 (io), L12 IO_L6P_T0_FCS_B_14 (io), L13 IO_L5N_T0_D07_14 (io), L14 IO_L4P_T0_D04_14 (io), L15 IO_L3P_T0_DQS_PUDC_B_14 (io), M6 IO_L19P_T3_A10_D26_14 (io), M12 IO_L6N_T0_D08_VREF_14 (io), M14 IO_L4N_T0_D05_14 (io), M15 IO_L3N_T0_DQS_EMCCLK_14 (io), M16 IO_L7P_T1_D09_14 (io), N6 IO_L19N_T3_A09_D25_VREF_14 (io), N9 IO_L18P_T2_A12_D28_14 (io), N11 IO_L13P_T2_MRCC_14 (io), N12 IO_L13N_T2_MRCC_14 (io), N13 IO_L11P_T1_SRCC_14 (io), N14 IO_L12P_T1_MRCC_14 (io), N16 IO_L7N_T1_D10_14 (io), P6 IO_25_14 (io), P8 IO_L20P_T3_A08_D24_14 (io), P9 IO_L18N_T2_A11_D27_14 (io), P10 IO_L14P_T2_SRCC_14 (io), P11 IO_L14N_T2_SRCC_14 (io), P13 IO_L11N_T1_SRCC_14 (io), P14 IO_L12N_T1_MRCC_14 (io), P15 IO_L8P_T1_D11_14 (io), P16 IO_L8N_T1_D12_14 (io), R5 IO_L23P_T3_A03_D19_14 (io), R6 IO_L24P_T3_A01_D17_14 (io), R7 IO_L24N_T3_A00_D16_14 (io), R8 IO_L20N_T3_A07_D23_14 (io), R10 IO_L17P_T2_A14_D30_14 (io), R11 IO_L17N_T2_A13_D29_14 (io), R12 IO_L15P_T2_DQS_RDWR_B_14 (io), R13 IO_L16P_T2_CSI_B_14 (io), R15 IO_L9P_T1_DQS_14 (io), R16 IO_L9N_T1_DQS_D13_14 (io), T5 IO_L23N_T3_A02_D18_14 (io), T7 IO_L21P_T3_DQS_14 (io), T8 IO_L21N_T3_DQS_A06_D22_14 (io), T9 IO_L22P_T3_A05_D21_14 (io), T10 IO_L22N_T3_A04_D20_14 (io), T12 IO_L15N_T2_DQS_DOUT_CSO_B_14 (io), T13 IO_L16N_T2_A15_D31_14 (io), T14 IO_L10P_T1_D14_14 (io), T15 IO_L10N_T1_D15_14 (io)
part B pins: A8 IO_L2P_T0_AD8P_15 (io), A9 IO_L2N_T0_AD8N_15 (io), A10 IO_L3N_T0_DQS_AD1N_15 (io), A12 IO_L5N_T0_AD9N_15 (io), A13 IO_L7P_T1_AD2P_15 (io), A14 IO_L7N_T1_AD2N_15 (io), A15 IO_L9N_T1_DQS_AD3N_15 (io), B9 IO_L3P_T0_DQS_AD1P_15 (io), B10 IO_L4P_T0_15 (io), B11 IO_L4N_T0_15 (io), B12 IO_L5P_T0_AD9P_15 (io), B14 IO_L8N_T1_AD10N_15 (io), B15 IO_L9P_T1_DQS_AD3P_15 (io), B16 IO_L10N_T1_AD11N_15 (io), C8 IO_L1P_T0_AD0P_15 (io), C9 IO_L1N_T0_AD0N_15 (io), C11 IO_L11P_T1_SRCC_15 (io), C12 IO_L11N_T1_SRCC_15 (io), C13 IO_L12N_T1_MRCC_15 (io), C14 IO_L8P_T1_AD10P_15 (io), C16 IO_L10P_T1_AD11P_15 (io), D8 IO_L6P_T0_15 (io), D9 IO_L6N_T0_VREF_15 (io), D10 IO_0_15 (io), D11 IO_L14N_T2_SRCC_15 (io), D13 IO_L12P_T1_MRCC_15 (io), D14 IO_L15P_T2_DQS_15 (io), D15 IO_L15N_T2_DQS_ADV_B_15 (io), D16 IO_L17N_T2_A25_15 (io), E11 IO_L14P_T2_SRCC_15 (io), E12 IO_L13P_T2_MRCC_15 (io), E13 IO_L13N_T2_MRCC_15 (io), E15 IO_L18N_T2_A23_15 (io), E16 IO_L17P_T2_A26_15 (io), F12 IO_L16P_T2_A28_15 (io), F13 IO_L16N_T2_A27_15 (io), F14 IO_L21N_T3_DQS_A18_15 (io), F15 IO_L18P_T2_A24_15 (io), G11 IO_25_15 (io), G12 IO_L19N_T3_A21_VREF_15 (io), G14 IO_L21P_T3_DQS_15 (io), G15 IO_L24N_T3_RS0_15 (io), G16 IO_L22N_T3_A16_15 (io), H11 IO_L19P_T3_A22_15 (io), H12 IO_L20P_T3_A20_15 (io), H13 IO_L20N_T3_A19_15 (io), H14 IO_L24P_T3_RS1_15 (io), H16 IO_L22P_T3_A17_15 (io), J15 IO_L23P_T3_FOE_B_15 (io), J16 IO_L23N_T3_FWE_B_15 (io)
part C pins: L4 IO_L1P_T0_34 (io), L5 IO_0_34 (io), M1 IO_L2N_T0_34 (io), M2 IO_L2P_T0_34 (io), M4 IO_L1N_T0_34 (io), M5 IO_L6P_T0_34 (io), N1 IO_L4P_T0_34 (io), N2 IO_L3N_T0_DQS_34 (io), N3 IO_L3P_T0_DQS_34 (io), N4 IO_L6N_T0_VREF_34 (io), P1 IO_L4N_T0_34 (io), P3 IO_L5N_T0_34 (io), P4 IO_L5P_T0_34 (io), P5 IO_L10P_T1_34 (io), R1 IO_L7N_T1_34 (io), R2 IO_L7P_T1_34 (io), R3 IO_L8P_T1_34 (io), T2 IO_L8N_T1_34 (io), T3 IO_L9N_T1_DQS_34 (io), T4 IO_L9P_T1_DQS_34 (io)
part D pins: A2 IO_L8N_T1_AD14N_35 (io), A3 IO_L4N_T0_35 (io), A4 IO_L3N_T0_DQS_AD5N_35 (io), A5 IO_L3P_T0_DQS_AD5P_35 (io), A7 IO_L1N_T0_AD4N_35 (io), B1 IO_L9N_T1_DQS_AD7N_35 (io), B2 IO_L8P_T1_AD14P_35 (io), B4 IO_L4P_T0_35 (io), B5 IO_L2N_T0_AD12N_35 (io), B6 IO_L2P_T0_AD12P_35 (io), B7 IO_L1P_T0_AD4P_35 (io), C1 IO_L9P_T1_DQS_AD7P_35 (io), C2 IO_L7N_T1_AD6N_35 (io), C3 IO_L7P_T1_AD6P_35 (io), C4 IO_L12N_T1_MRCC_35 (io), C6 IO_L5N_T0_AD13N_35 (io), C7 IO_L5P_T0_AD13P_35 (io), D1 IO_L10N_T1_AD15N_35 (io), D3 IO_L11N_T1_SRCC_35 (io), D4 IO_L12P_T1_MRCC_35 (io), D5 IO_L6N_T0_VREF_35 (io), D6 IO_L6P_T0_35 (io), E1 IO_L15N_T2_DQS_35 (io), E2 IO_L10P_T1_AD15P_35 (io), E3 IO_L11P_T1_SRCC_35 (io), E5 IO_L13N_T2_MRCC_35 (io), E6 IO_0_35 (io), F2 IO_L15P_T2_DQS_35 (io), F3 IO_L14N_T2_SRCC_35 (io), F4 IO_L14P_T2_SRCC_35 (io), F5 IO_L13P_T2_MRCC_35 (io), G1 IO_L17N_T2_35 (io), G2 IO_L17P_T2_35 (io), G4 IO_L16N_T2_35 (io), G5 IO_L16P_T2_35 (io), H1 IO_L20N_T3_35 (io), H2 IO_L20P_T3_35 (io), H3 IO_L21N_T3_DQS_35 (io), H4 IO_L18N_T2_35 (io), H5 IO_L18P_T2_35 (io), J1 IO_L22N_T3_35 (io), J3 IO_L21P_T3_DQS_35 (io), J4 IO_L19N_T3_VREF_35 (io), J5 IO_L19P_T3_35 (io), K1 IO_L22P_T3_35 (io), K2 IO_L24N_T3_35 (io), K3 IO_L24P_T3_35 (io), K5 IO_25_35 (io), L2 IO_L23N_T3_35 (io), L3 IO_L23P_T3_35 (io)
part E pins: E7 CFGBVS_0 (in), E8 CCLK_0 (io), H7 VREFN_0 (in), H8 VP_0 (in), H10 DONE_0 (io), J7 VN_0 (in), J8 VREFP_0 (in), K7 DXN_0 (in), K8 DXP_0 (in), K10 INIT_B_0 (io), L7 TCK_0 (in), L9 PROGRAM_B_0 (in), M7 TMS_0 (in), M9 M0_0 (in), M10 M1_0 (in), M11 M2_0 (in), N7 TDI_0 (in), N8 TDO_0 (out)
part F pins: A6 VCCO_35 (power), A16 VCCO_15 (power), B3 VCCO_35 (power), B13 VCCO_15 (power), C10 VCCO_15 (power), D7 VCCO_35 (power), E4 VCCO_35 (power), E14 VCCO_15 (power), F1 VCCO_35 (power), H15 VCCO_15 (power), J2 VCCO_35 (power), J12 VCCO_15 (power), L6 VCCO_0 (power), L16 VCCO_14 (power), M3 VCCO_34 (power), M13 VCCO_14 (power), N10 VCCO_14 (power), P7 VCCO_14 (power), R4 VCCO_34 (power), R14 VCCO_14 (power), T1 VCCO_34 (power), T11 VCCO_14 (power)
part G pins: E10 VCCBRAM (power), F7 VCCINT (power), F8 VCCBATT_0 (power), F9 VCCINT (power), F11 VCCBRAM (power), G6 VCCINT (power), G8 VCCADC_0 (power), G10 VCCAUX (power), H9 VCCINT (power), J6 VCCINT (power), J10 VCCAUX (power), K9 VCCINT (power), K11 VCCAUX (power), L8 VCCINT (power), L10 VCCAUX (power)
part H pins: A1 GND (power), A11 GND (power), B8 GND (power), C5 GND (power), C15 GND (power), D2 GND (power), D12 GND (power), E9 GND (power), F6 GND (power), F10 GND (power), F16 GND (power), G3 GND (power), G7 GNDADC_0 (power), G9 GND (power), G13 GND (power), H6 GND (power), J9 GND (power), J11 GND (power), K4 GND (power), K6 GND (power), K14 GND (power), L1 GND (power), L11 GND (power), M8 GND (power), N5 GND (power), N15 GND (power), P2 GND (power), P12 GND (power), R9 GND (power), T6 GND (power), T16 GND (power)
part A text: BANK 14
part B text: BANK 15
part C text: BANK 34
part D text: BANK 35

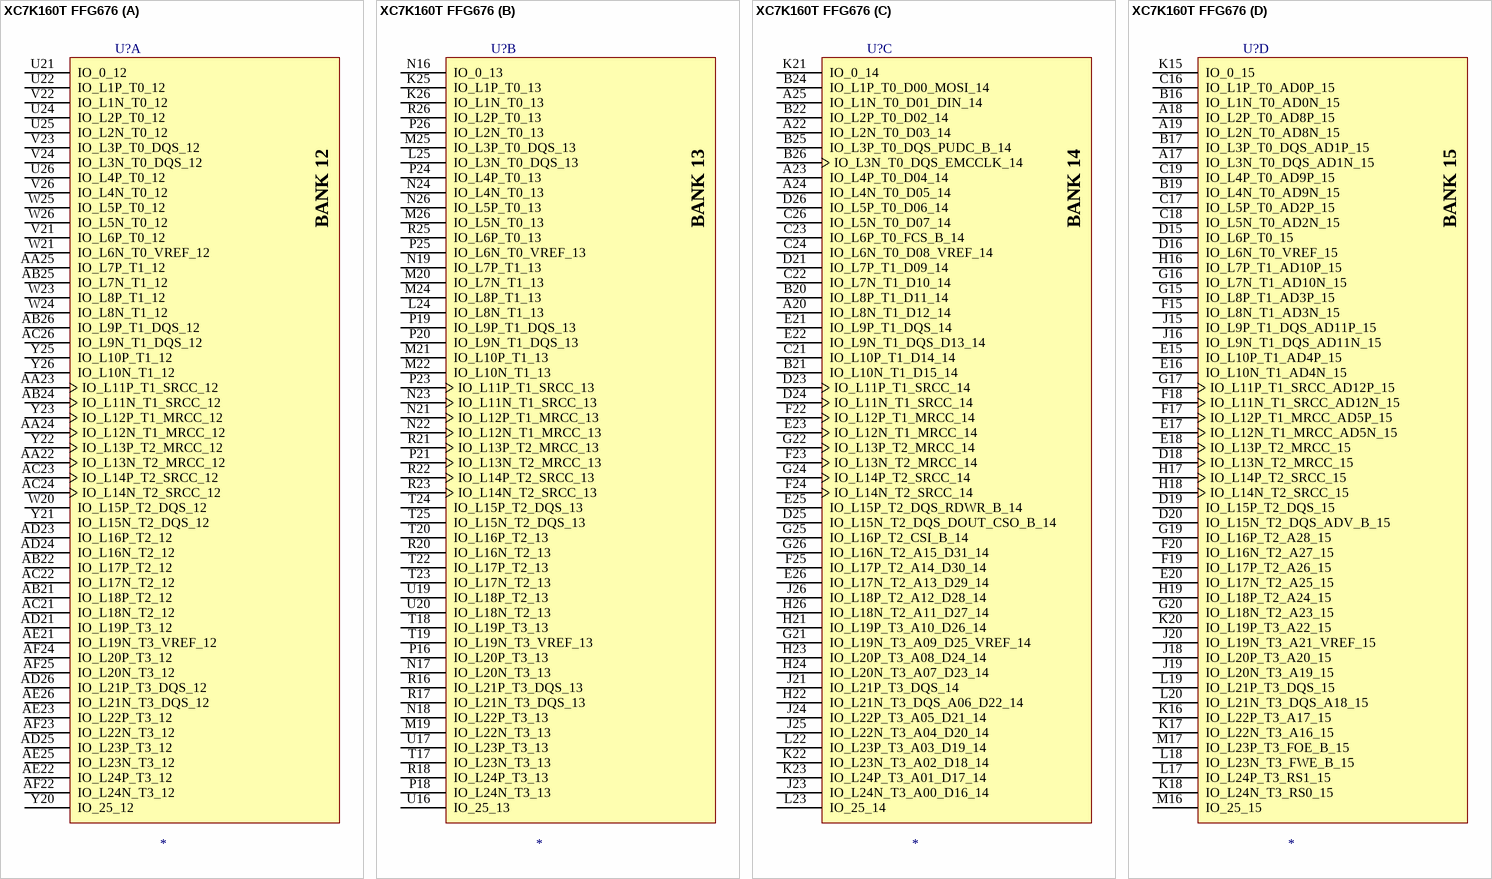
[diagram p22: symbol XC7K160T FFG676]

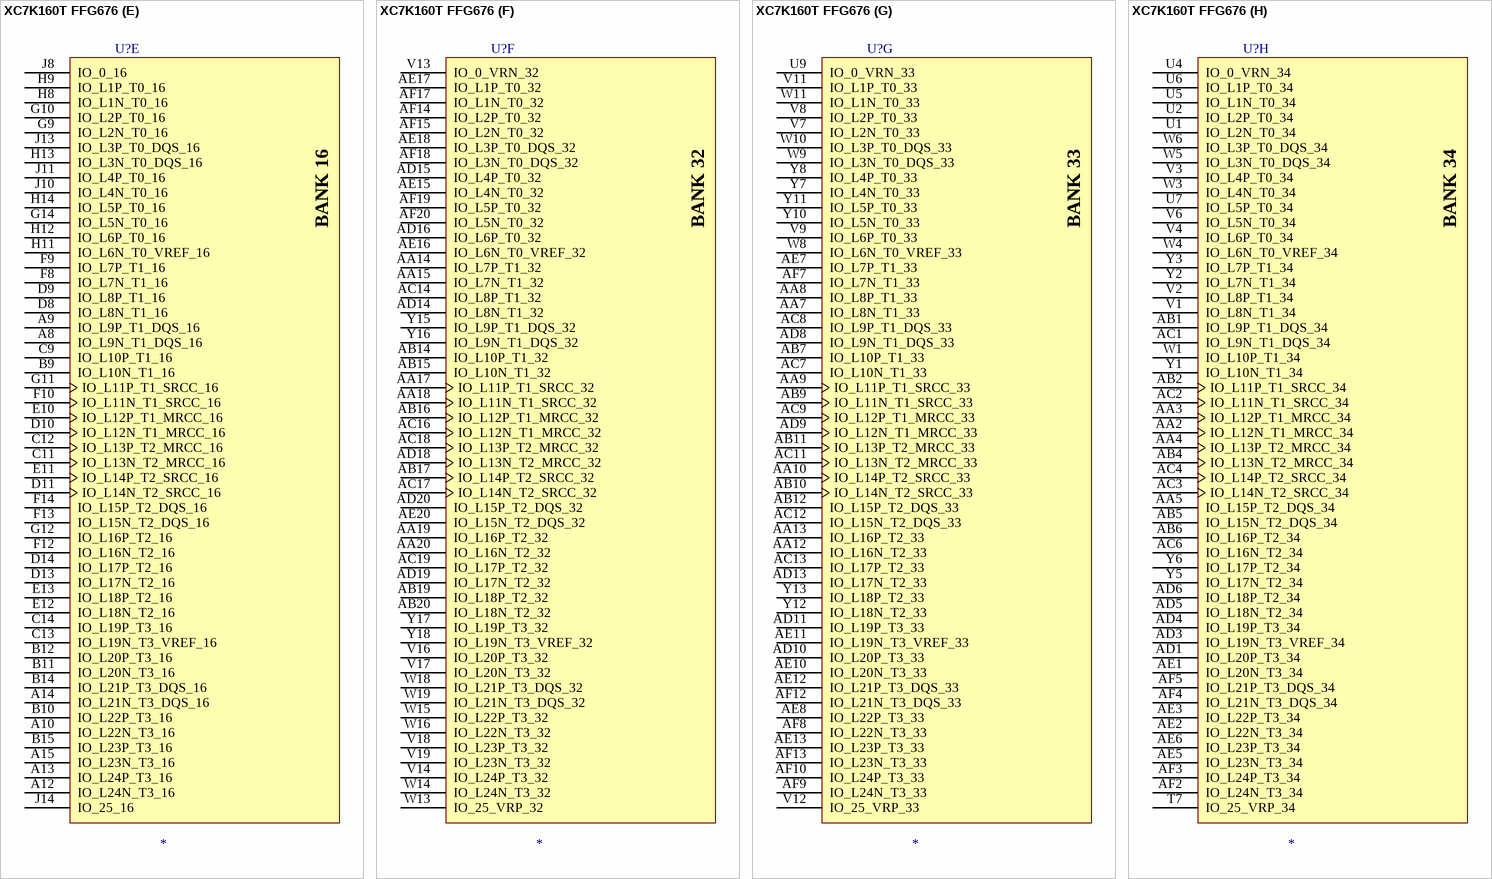
[diagram p23: symbol XC7K160T FFG676]

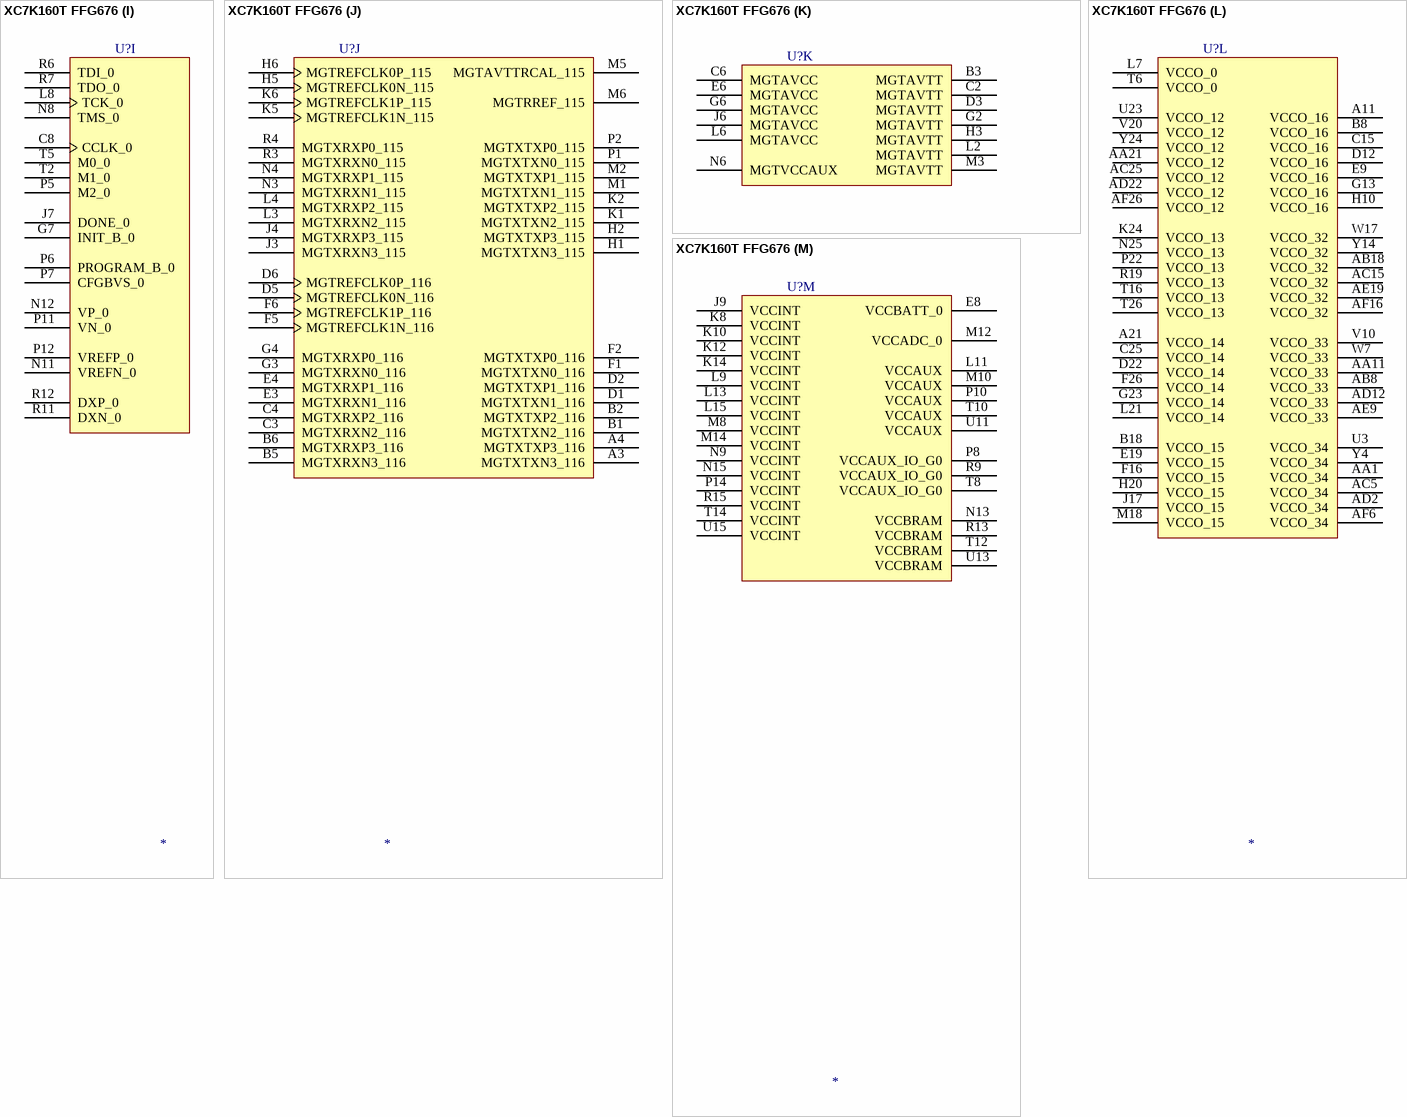
[diagram p24: symbol XC7K160T FFG676]

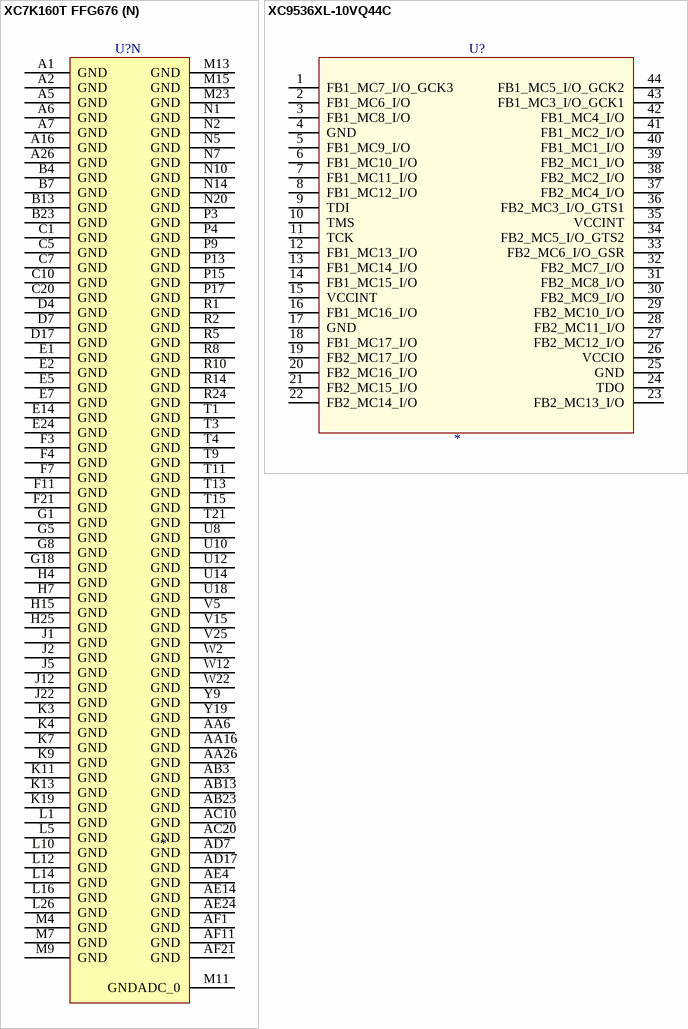
[diagram p25: symbols XC7K160T FFG676 to XC9536XL-10VQ44C]